# Altium schematic symbol library ARTC_LIB.SCHLIB: 172 symbols
Pins are listed as number, name and electrical type; pins without a type are passive.

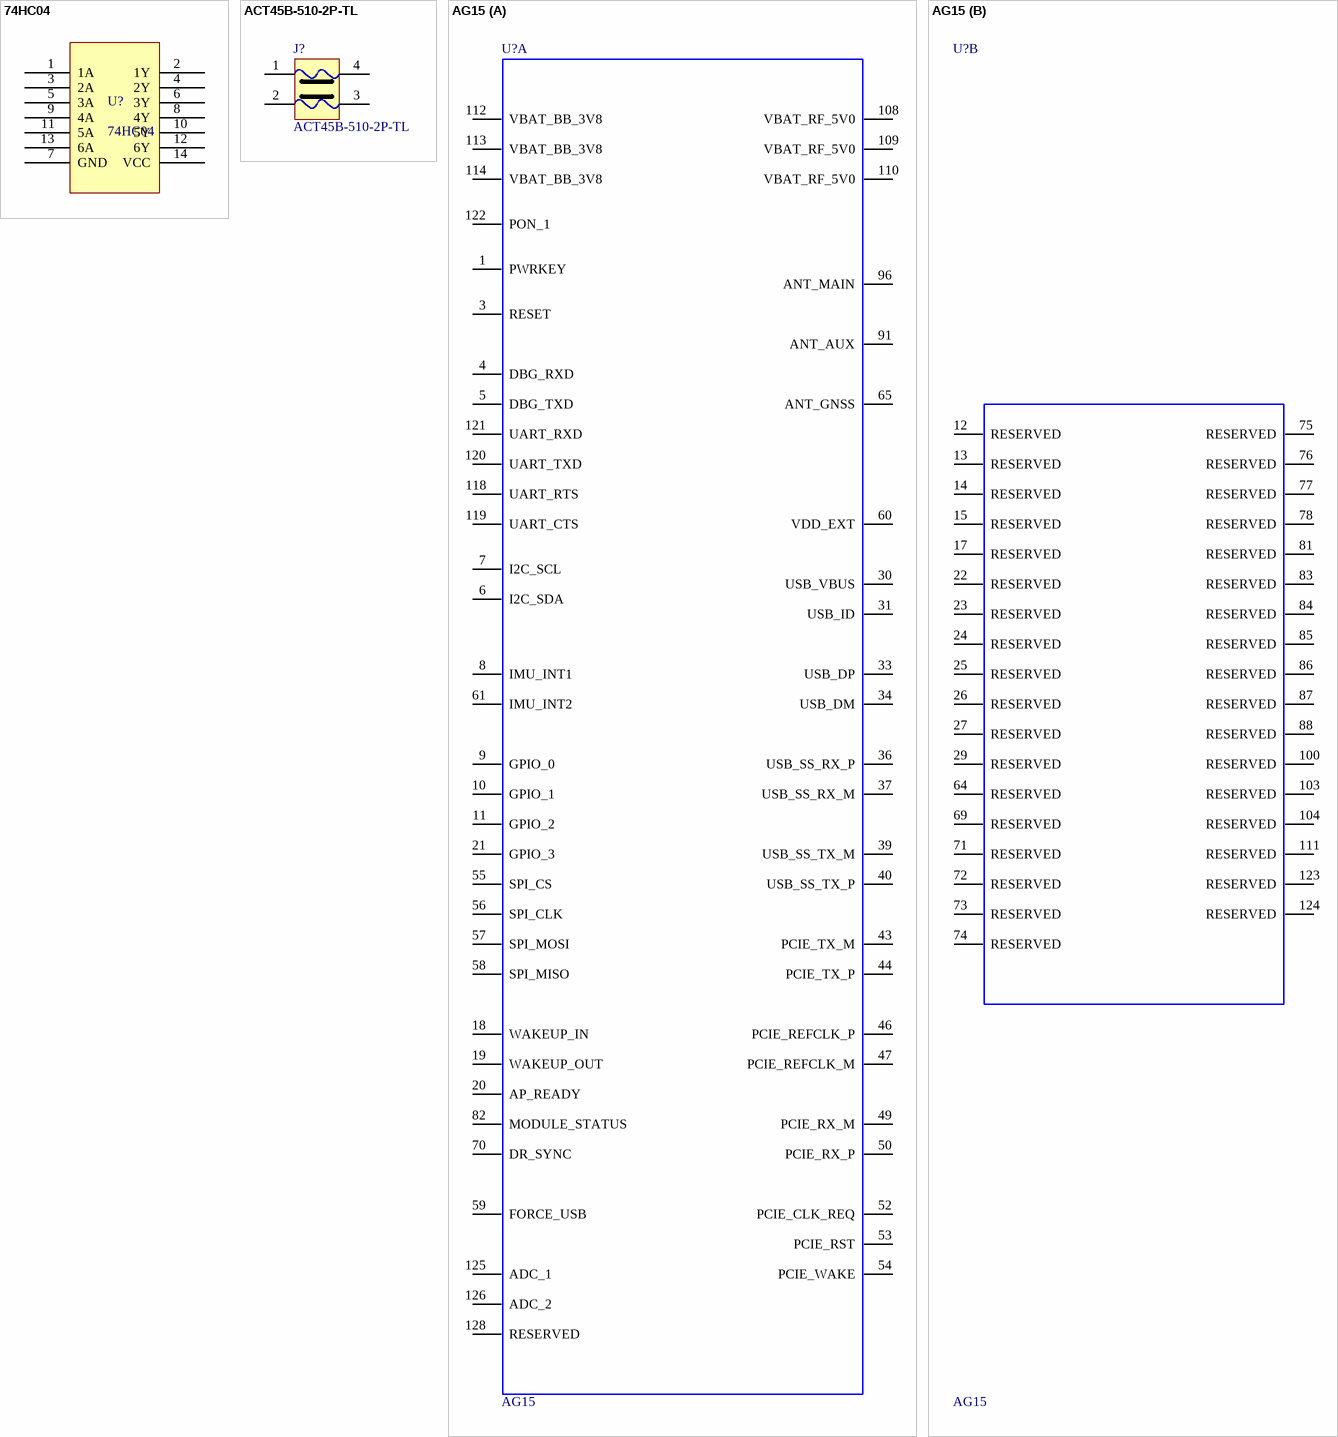
[diagram p0: symbols 74HC04 to AG15]

## 74HC04
designator U?
74HC04,6V,50mA,6反相器; 物料类型: IC; SMT/DIP: SMT; 物料代码: *
footprint SO-14
pins: 1 1A, 2 1Y, 3 2A, 4 2Y, 5 3A, 6 3Y, 7 GND, 8 4Y, 9 4A, 10 5Y, 11 5A, 12 6Y, 13 6A, 14 VCC

## ACT45B-510-2P-TL
designator J?
ACT45B-510-2P-TL,50V,200mA,100uH; 物料类型: 共模电感; SMT/DIP: SMT; 物料代码: *; 封装: ACT45B-510-2P-TL; 厂商: *
footprint ACT45B-510-2P-TL
pins: 1, 2, 3, 4
2 alternate drawings of the same symbol

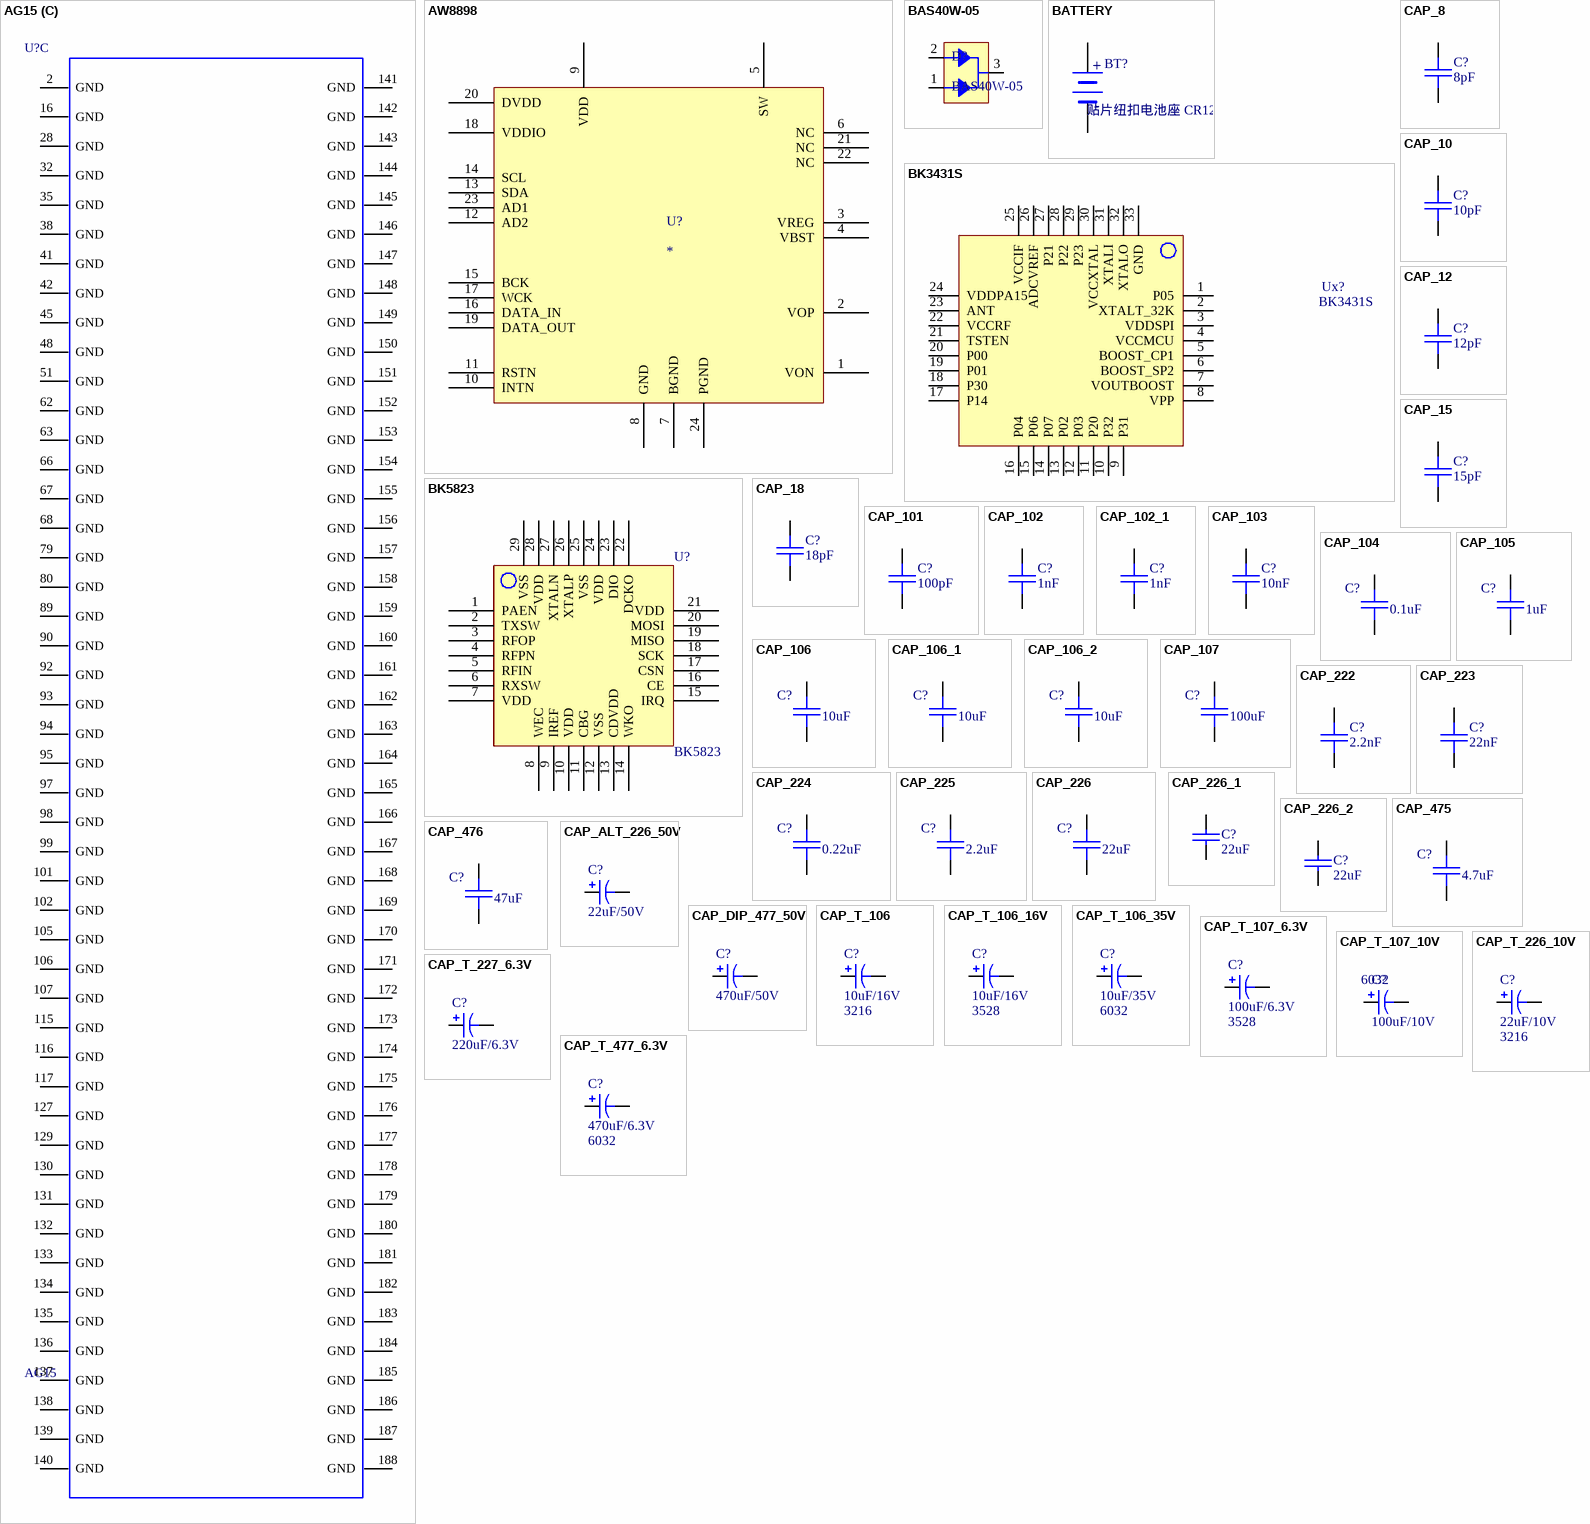
[diagram p1: symbols AG15 to CAP_T_477_6.3V]

## AG15
designator U?
移远AG15模块; 物料类型: AG15 Moudle 188PIN 28x32mm H2.85mm; SMT/DIP: SMT; Geometry.Height: 2.85mm; 厂商: QUECTEL; 物料代码: *
footprint AG15
part A pins: 1 PWRKEY, 3 RESET, 4 DBG_RXD, 5 DBG_TXD, 6 I2C_SDA, 7 I2C_SCL, 8 IMU_INT1, 9 GPIO_0, 10 GPIO_1, 11 GPIO_2, 18 WAKEUP_IN, 19 WAKEUP_OUT, 20 AP_READY, 21 GPIO_3, 30 USB_VBUS, 31 USB_ID, 33 USB_DP, 34 USB_DM, 36 USB_SS_RX_P, 37 USB_SS_RX_M, 39 USB_SS_TX_M, 40 USB_SS_TX_P, 43 PCIE_TX_M, 44 PCIE_TX_P, 46 PCIE_REFCLK_P, 47 PCIE_REFCLK_M, 49 PCIE_RX_M, 50 PCIE_RX_P, 52 PCIE_CLK_REQ, 53 PCIE_RST, 54 PCIE_WAKE, 55 SPI_CS, 56 SPI_CLK, 57 SPI_MOSI, 58 SPI_MISO, 59 FORCE_USB, 60 VDD_EXT, 61 IMU_INT2, 65 ANT_GNSS, 70 DR_SYNC, 82 MODULE_STATUS, 91 ANT_AUX, 96 ANT_MAIN, 108 VBAT_RF_5V0, 109 VBAT_RF_5V0, 110 VBAT_RF_5V0, 112 VBAT_BB_3V8, 113 VBAT_BB_3V8, 114 VBAT_BB_3V8, 118 UART_RTS, 119 UART_CTS, 120 UART_TXD, 121 UART_RXD, 122 PON_1, 125 ADC_1, 126 ADC_2, 128 RESERVED
part B pins: 12 RESERVED, 13 RESERVED, 14 RESERVED, 15 RESERVED, 17 RESERVED, 22 RESERVED, 23 RESERVED, 24 RESERVED, 25 RESERVED, 26 RESERVED, 27 RESERVED, 29 RESERVED, 64 RESERVED, 69 RESERVED, 71 RESERVED, 72 RESERVED, 73 RESERVED, 74 RESERVED, 75 RESERVED, 76 RESERVED, 77 RESERVED, 78 RESERVED, 81 RESERVED, 83 RESERVED, 84 RESERVED, 85 RESERVED, 86 RESERVED, 87 RESERVED, 88 RESERVED, 100 RESERVED, 103 RESERVED, 104 RESERVED, 111 RESERVED, 123 RESERVED, 124 RESERVED
part C pins: 2 GND, 16 GND, 28 GND, 32 GND, 35 GND, 38 GND, 41 GND, 42 GND, 45 GND, 48 GND, 51 GND, 62 GND, 63 GND, 66 GND, 67 GND, 68 GND, 79 GND, 80 GND, 89 GND, 90 GND, 92 GND, 93 GND, 94 GND, 95 GND, 97 GND, 98 GND, 99 GND, 101 GND, 102 GND, 105 GND, 106 GND, 107 GND, 115 GND, 116 GND, 117 GND, 127 GND, 129 GND, 130 GND, 131 GND, 132 GND, 133 GND, 134 GND, 135 GND, 136 GND, 137 GND, 138 GND, 139 GND, 140 GND, 141 GND, 142 GND, 143 GND, 144 GND, 145 GND, 146 GND, 147 GND, 148 GND, 149 GND, 150 GND, 151 GND, 152 GND, 153 GND, 154 GND, 155 GND, 156 GND, 157 GND, 158 GND, 159 GND, 160 GND, 161 GND, 162 GND, 163 GND, 164 GND, 165 GND, 166 GND, 167 GND, 168 GND, 169 GND, 170 GND, 171 GND, 172 GND, 173 GND, 174 GND, 175 GND, 176 GND, 177 GND, 178 GND, 179 GND, 180 GND, 181 GND, 182 GND, 183 GND, 184 GND, 185 GND, 186 GND, 187 GND, 188 GND

## AW8898
designator U?
AW8898,I2S/TDM input,3rd Generation Digital Smart K Audio Amplifier,5.2W,上海艾为电子; 物料类型: IC; SMT/DIP: SMT; 厂商: 艾为电子; 物料代码: *
footprint QFN24_L (3.5*3.5*0.75)
pins: 1 VON, 2 VOP, 3 VREG, 4 VBST, 5 SW, 6 NC, 7 BGND, 8 GND, 9 VDD, 10 INTN, 11 RSTN, 12 AD2, 13 SDA, 14 SCL, 15 BCK, 16 DATA_IN, 17 WCK, 18 VDDIO, 19 DATA_OUT, 20 DVDD, 21 NC, 22 NC, 23 AD1, 24 PGND

## BAS40W-05
designator D?
物料类型: 肖特基二极管; SMT/DIP: SMT; 物料代码: *; 厂商: *
footprint SOT-323
pins: 1, 2, 3

## BATTERY
designator BT?, comment 贴片纽扣电池座 CR1220
2P,间距1.25mm,Wafer凹槽边框,90°,FPC2-49T; 物料类型: 纽扣电池座; SMT/DIP: SMT; 物料代码: *; 厂商: *
footprint BAT600
pins: 1 +, 2 -
2 alternate drawings of the same symbol

## BK3431S
designator Ux?
物料类型: IC; SMT/DIP: SMT; 物料代码: *; 厂商: *
footprint QFN40P400X400X90-32N
pins: 1 P05, 2 XTALT_32K, 3 VDDSPI, 4 VCCMCU, 5 BOOST_CP1, 6 BOOST_SP2, 7 VOUTBOOST, 8 VPP, 9 P31, 10 P32, 11 P20, 12 P03, 13 P02, 14 P07, 15 P06, 16 P04, 17 P14, 18 P30, 19 P01, 20 P00, 21 TSTEN, 22 VCCRF, 23 ANT, 24 VDDPA15, 25 VCCIF, 26 ADCVREF, 27 P21, 28 P22, 29 P23, 30 VCCXTAL, 31 XTALI, 32 XTALO, 33 GND
2 alternate drawings of the same symbol

## BK5823
designator U?
物料类型: IC; SMT/DIP: SMT; 物料代码: *; 厂商: *
footprint BK5822
pins: 1 PAEN, 2 TXSW, 3 RFOP, 4 RFPN, 5 RFIN, 6 RXSW, 7 VDD, 8 WEC, 9 IREF, 10 VDD, 11 CBG, 12 VSS, 13 CDVDD, 14 WKO, 15 IRQ, 16 CE, 17 CSN, 18 SCK, 19 MISO, 20 MOSI, 21 VDD, 22 DCKO, 23 DIO, 24 VDD, 25 VSS, 26 XTALP, 27 XTALN, 28 VDD, 29 VSS
2 alternate drawings of the same symbol

## CAP_8
designator C?, comment 8pF
8pF/±10%/25V/X7R/0402; 物料类型: 电容; 封装: 0402; SMT/DIP: SMT; 物料代码: *; 厂商: *
footprint C0402
pins: 1, 2
2 alternate drawings of the same symbol

## CAP_10
designator C?, comment 10pF
10pF/±10%/25V/X7R/0402; 物料类型: 电容; 封装: 0402; SMT/DIP: SMT; 物料代码: *; 厂商: *
footprint C0402
pins: 1, 2
2 alternate drawings of the same symbol

## CAP_12
designator C?, comment 12pF
12pF/±10%/25V/X7R/0402; 物料类型: 电容; 封装: 0402; SMT/DIP: SMT; 物料代码: *; 厂商: *
footprint C0402
pins: 1, 2
2 alternate drawings of the same symbol

## CAP_15
designator C?, comment 15pF
15pF/±10%/25V/X7R/0402; 物料类型: 电容; 封装: 0402; SMT/DIP: SMT; 物料代码: *; 厂商: *
footprint C0402
pins: 1, 2
2 alternate drawings of the same symbol

## CAP_18
designator C?, comment 18pF
18pF/±10%/25V/X7R/0402; 物料类型: 电容; 封装: 0402; SMT/DIP: SMT; 物料代码: *; 厂商: *
footprint C0402
pins: 1, 2
2 alternate drawings of the same symbol

## CAP_101
designator C?, comment 100pF
100pF/±10%/25V/X7R/0402; 物料类型: 电容; 封装: 0402; SMT/DIP: SMT; 物料代码: *; 厂商: *
footprint C0402
pins: 1, 2
2 alternate drawings of the same symbol

## CAP_102
designator C?, comment 1nF
1nF/±10%/25V/X7R/0402; 物料类型: 电容; 封装: 0402; SMT/DIP: SMT; 物料代码: *; 厂商: *
footprint C0402
pins: 1, 2
2 alternate drawings of the same symbol

## CAP_102_1
designator C?, comment 1nF
1nF/±10%/1KV/X7R/1206; 物料类型: 电容; 封装: 1206; SMT/DIP: SMT; 物料代码: *; 厂商: *
footprint C1206
pins: 1, 2
2 alternate drawings of the same symbol

## CAP_103
designator C?, comment 10nF
10nF/±10%/25V/X7R/0402; 物料类型: 电容; 封装: 0402; SMT/DIP: SMT; 物料代码: *; 厂商: *
footprint C0402
pins: 1, 2
2 alternate drawings of the same symbol

## CAP_104
designator C?, comment 0.1uF
0.1uF/±10%/16V/X7R/0402; 物料类型: 电容; 封装: 0402; SMT/DIP: SMT; 物料代码: *; 厂商: *
footprint C0402
pins: 1, 2
2 alternate drawings of the same symbol

## CAP_105
designator C?, comment 1uF
1uF/±10%/16V/X7R/0603; 物料类型: 电容; 封装: 0603; SMT/DIP: SMT; 物料代码: *; 厂商: *
footprint C0603
pins: 1, 2
2 alternate drawings of the same symbol

## CAP_106
designator C?, comment 10uF
10uF/±10%/10V/X5R/0603; 物料类型: 电容; 封装: 0603; SMT/DIP: SMT; 物料代码: *; 厂商: *
footprint C0603
pins: 1, 2
2 alternate drawings of the same symbol

## CAP_106_1
designator C?, comment 10uF
10uF/±10%/50V/X5R/1206; 物料类型: 电容; 封装: 1206; SMT/DIP: SMT; 物料代码: *; 厂商: *
footprint C1206
pins: 1, 2
2 alternate drawings of the same symbol

## CAP_106_2
designator C?, comment 10uF
10uF/±10%/50V/X5R/0805; 物料类型: 电容; 封装: 0805; SMT/DIP: SMT; 物料代码: *; 厂商: *
footprint C0805
pins: 1, 2
2 alternate drawings of the same symbol

## CAP_107
designator C?, comment 100uF
100uF/±10%/6.3V/X5R/1210; 物料类型: 电容; 封装: 1210; SMT/DIP: SMT; 物料代码: *; 厂商: *
footprint C1210
pins: 1, 2
2 alternate drawings of the same symbol

## CAP_222
designator C?, comment 2.2nF
2.2nF/±10%/25V/X7R/0402; 物料类型: 电容; 封装: 0402; SMT/DIP: SMT; 物料代码: *; 厂商: *
footprint C0402
pins: 1, 2
2 alternate drawings of the same symbol

## CAP_223
designator C?, comment 22nF
22nF/±10%/25V/X7R/0402; 物料类型: 电容; 封装: 0402; SMT/DIP: SMT; 物料代码: *; 厂商: *
footprint C0402
pins: 1, 2
2 alternate drawings of the same symbol

## CAP_224
designator C?, comment 0.22uF
0.22uF/±10%/16V/X7R/0402; 物料类型: 电容; 封装: 0402; SMT/DIP: SMT; 物料代码: *; 厂商: *
footprint C0402
pins: 1, 2
2 alternate drawings of the same symbol

## CAP_225
designator C?, comment 2.2uF
2.2uF/±10%/10V/X7R/0603; 物料类型: 电容; 封装: 0603; SMT/DIP: SMT; 物料代码: *; 厂商: *
footprint C0603
pins: 1, 2
2 alternate drawings of the same symbol

## CAP_226
designator C?, comment 22uF
22uF/±10%/10V/X7R/0805; 物料类型: 电容; 封装: 0402; SMT/DIP: SMT; 物料代码: *; 厂商: *
footprint C0805
pins: 1, 2
2 alternate drawings of the same symbol

## CAP_226_1
designator C?, comment 22uF
22uF/±10%/10V/X7R/1206; 物料类型: 电容; SMT/DIP: DIP; 封装: 1206; 物料代码: *; 厂商: *
footprint C1206
pins: 1, 2
2 alternate drawings of the same symbol

## CAP_226_2
designator C?, comment 22uF
22uF/±10%/10V/X7R/1206; 物料类型: 电容; 封装: 1210; SMT/DIP: SMT; 物料代码: *; 厂商: *
footprint C1206
pins: 1, 2
2 alternate drawings of the same symbol

## CAP_475
designator C?, comment 4.7uF
4.7uF/±10%/10V/X7R/0603; 物料类型: 电容; 封装: 0402; SMT/DIP: SMT; 物料代码: *; 厂商: *
footprint C0603
pins: 1, 2
2 alternate drawings of the same symbol

## CAP_476
designator C?, comment 47uF
47uF/±10%/10V/X7R/1206; 物料类型: 电容; 封装: 1206; SMT/DIP: SMT; 物料代码: *; 厂商: *
footprint C1206
pins: 1, 2
2 alternate drawings of the same symbol

## CAP_ALT_226_50V
designator C?, comment 22uF/50V
22uF,50V,D6.3*6mm; 物料类型: 直插电解电容; SMT/DIP: SMT
footprint CAP-EVJ-D6.3*6mm
pins: 1, 2
2 alternate drawings of the same symbol

## CAP_DIP_477_50V
designator C?, comment 470uF/50V
470uF,50V,D10*17mm; 物料类型: 直插电解电容; SMT/DIP: DIP
footprint CAP_DIP_10*17
pins: 1, 2
2 alternate drawings of the same symbol

## CAP_T_106
designator C?, comment 10uF/16V  封装: 3216
10uF,16V,3216,RoHS; 物料类型: 钽电容; SMT/DIP: SMT; Value: 10uF
footprint C3216 (长3.2mm，宽1.6mm，厚1.6mm)
pins: 1, 2
2 alternate drawings of the same symbol

## CAP_T_106_16V
designator C?, comment 10uF/16V  封装: 3528
10uF,16V,3528,RoHS; 物料类型: 钽电容; SMT/DIP: SMT; Value: 10uF
footprint C3528 (长3.5mm，宽2.8mm，厚1.9mm)
pins: 1, 2
2 alternate drawings of the same symbol

## CAP_T_106_35V
designator C?, comment 10uF/35V  封装: 6032
10uF,35V,6032,RoHS; 物料类型: 钽电容; SMT/DIP: SMT; Value: 10uF
footprint POLAR0.8
footprint 6032
pins: 1, 2
2 alternate drawings of the same symbol

## CAP_T_107_6.3V
designator C?, comment 100uF/6.3V  封装: 3528
100uF,6.3V,3528,RoHS; 物料类型: 钽电容; SMT/DIP: SMT; Value: 100uF
footprint C3528 (长3.5mm，宽2.8mm，厚1.9mm)
pins: 1, 2
2 alternate drawings of the same symbol

## CAP_T_107_10V
designator C?, comment 100uF/10V  封装: 6032
100uF,10V,6032,RoHS; 物料类型: 钽电容; 厂商: AVX; SMT/DIP: SMT; Value: 100uF
footprint 6032
pins: 1, 2
2 alternate drawings of the same symbol

## CAP_T_226_10V
designator C?, comment 22uF/10V  封装: 3216
22uF,10V,3216,RoHS; 物料类型: 钽电容; SMT/DIP: SMT; Value: 22uF
footprint C3216 (长3.2mm，宽1.6mm，厚1.6mm)
pins: 1, 2
2 alternate drawings of the same symbol

## CAP_T_227_6.3V
designator C?, comment 220uF/6.3V
220uF,6.3V,3528,RoHS; 物料类型: 钽电容; SMT/DIP: SMT; 封装: 3528; Value: 220uF
footprint C3528 (长3.5mm，宽2.8mm，厚1.9mm)
pins: 1, 2
2 alternate drawings of the same symbol

## CAP_T_477_6.3V
designator C?, comment 470uF/6.3V  封装: 6032
470uF,,6.3V,6032,RoHS; 物料类型: 钽电容; SMT/DIP: SMT; Value: 470uF
footprint 6032
pins: 1, 2
2 alternate drawings of the same symbol

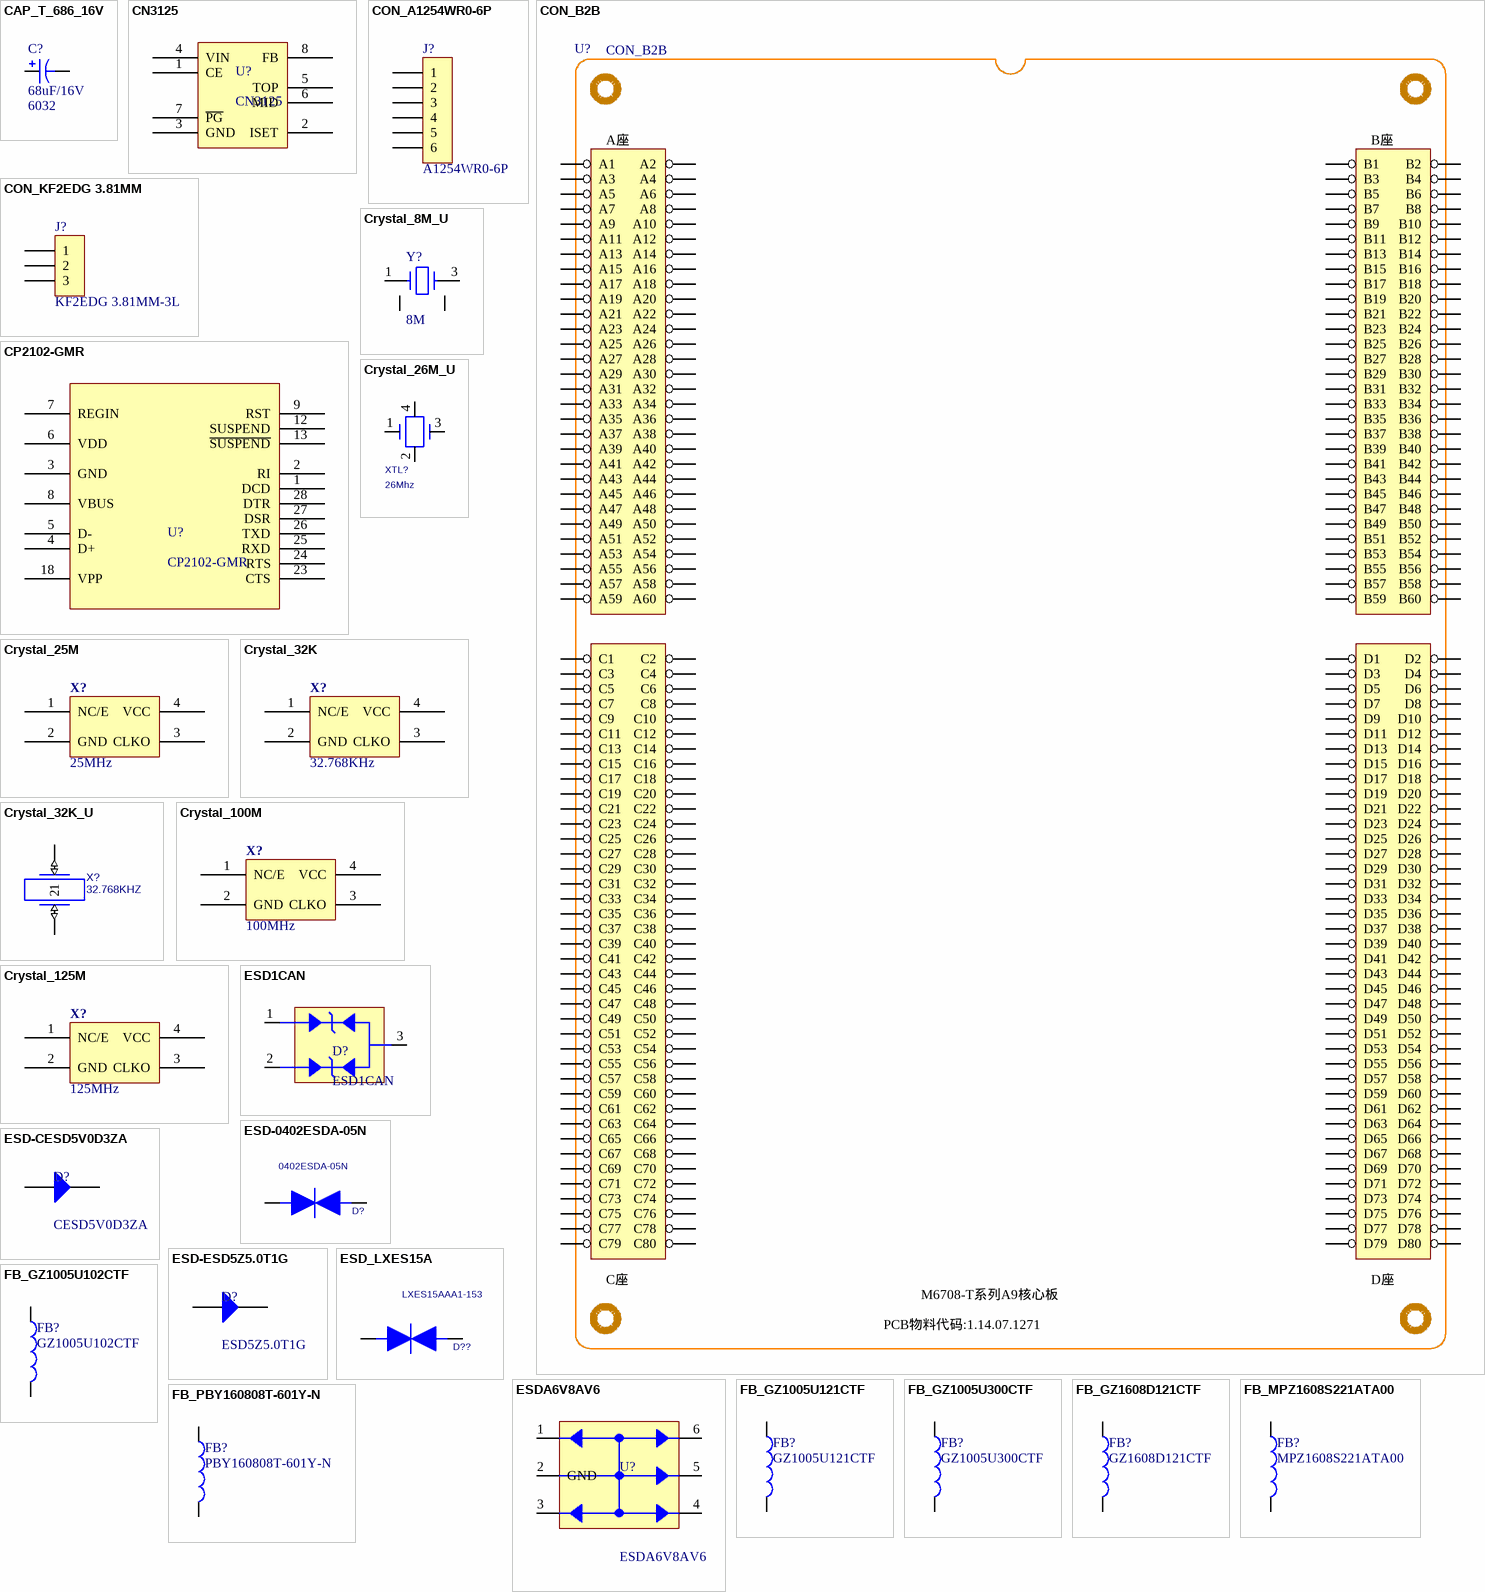
[diagram p2: symbols CAP_T_686_16V to FB_PBY160808T-601Y-N]

## CAP_T_686_16V
designator C?, comment 68uF/16V  封装: 6032
68uF,16V,6032,RoHS; 物料类型: 钽电容; 厂商: AVX; SMT/DIP: SMT; Value: 68uF
footprint 6032
pins: 1, 2
2 alternate drawings of the same symbol

## CN3125
designator U?
CN3125.超级电容充电管理IC,2.7-6V, / OPERATION CURRENT IS 470uA ESOP /; 物料类型: IC; SMT/DIP: SMT; 物料代码: *; 厂商: *
footprint ESOP-CN3125 (开关电源)
pins: 1 CE, 2 ISET, 3 GND, 4 VIN, 5 TOP, 6 MID, 7 ~{PG}, 8 FB

## CON_A1254WR0-6P
designator J?, comment A1254WR0-6P
A1254WR0-6P(1.25MM-6PIN); 物料类型: 连接器; SMT/DIP: SMT; 厂商: *; 物料代码: *; 封装: A1254WR0-6P
footprint 55063-NAWB
pins: 1, 2, 3, 4, 5, 6
2 alternate drawings of the same symbol

## CON_B2B
designator U?
DF12D(3.0)-60DP-0.5V(81) 母座*2，DF12D(3.0)-80DP-0.5V(81) 母座*2; 物料类型: 连接器; SMT/DIP: SMT; 物料代码: *; 厂商: *; 封装: *
footprint M6708-T
pins: A1, A2, A3, A4, A5, A6, A7, A8, A9, A10, A11, A12, A13, A14, A15, A16, A17, A18, A19, A20, A21, A22, A23, A24, A25, A26, A27, A28, A29, A30, A31, A32, A33, A34, A35, A36, A37, A38, A39, A40, A41, A42, A43, A44, A45, A46, A47, A48, A49, A50, A51, A52, A53, A54, A55, A56, A57, A58, A59, A60, B1, B2, B3, B4, B5, B6, B7, B8, B9, B10, B11, B12, B13, B14, B15, B16, B17, B18, B19, B20, B21, B22, B23, B24, B25, B26, B27, B28, B29, B30, B31, B32, B33, B34, B35, B36, B37, B38, B39, B40, B41, B42, B43, B44, B45, B46, B47, B48, B49, B50, B51, B52, B53, B54, B55, B56, B57, B58, B59, B60, C1, C2, C3, C4, C5, C6, C7, C8, C9, C10, C11, C12, C13, C14, C15, C16, C17, C18, C19, C20, C21, C22, C23, C24, C25, C26, C27, C28, C29, C30, C31, C32, C33, C34, C35, C36, C37, C38, C39, C40, C41, C42, C43, C44, C45, C46, C47, C48, C49, C50, C51, C52, C53, C54, C55, C56, C57, C58, C59, C60, C61, C62, C63, C64, C65, C66, C67, C68, C69, C70, C71, C72, C73, C74, C75, C76, C77, C78, C79, C80, D1, D2, D3, D4, D5, D6, D7, D8, D9, D10, D11, D12, D13, D14, D15, D16, D17, D18, D19, D20, D21, D22, D23, D24, D25, D26, D27, D28, D29, D30, D31, D32, D33, D34, D35, D36, D37, D38, D39, D40, D41, D42, D43, D44, D45, D46, D47, D48, D49, D50, D51, D52, D53, D54, D55, D56, D57, D58, D59, D60, D61, D62, D63, D64, D65, D66, D67, D68, D69, D70, D71, D72, D73, D74, D75, D76, D77, D78, D79, D80
2 alternate drawings of the same symbol
text: A座; B座; C座; D座; M6708-T系列A9核心板; PCB物料代码:1.14.07.1271

## CON_KF2EDG 3.81MM
designator J?, comment KF2EDG 3.81MM-3L
KF2EDG 3.81MM-3L,90度3PIN; 物料类型: 连接器; 封装: 3.81MM*3P; SMT/DIP: DIP; 物料代码: *; 厂商: *
footprint XH2.54-3A (3P弯插座)
pins: 1, 2, 3
2 alternate drawings of the same symbol

## CP2102-GMR
designator U?
CP2102-GMR，3V3,USB转TTL转换IC; 物料类型: IC; SMT/DIP: SMT; 厂商: *; 物料代码: *
footprint QFN-28_5x5x05P
pins: 1 DCD, 2 RI, 3 GND, 4 D+, 5 D-, 6 VDD, 7 REGIN, 8 VBUS, 9 RST, 12 SUSPEND, 13 ~{SUSPEND}, 18 VPP, 23 CTS, 24 RTS, 25 RXD, 26 TXD, 27 DSR, 28 DTR

## Crystal_8M_U
designator Y?, comment 8M
CF4008M00012T8188037,8M,±20ppm,5pF,-40~85℃,3225; 物料类型: 晶体; 厂商: JWT; SMT/DIP: SMT; 物料代码: *
footprint 3225
pins: 1, 2 GND, 3, 4 GND
2 alternate drawings of the same symbol

## Crystal_25M
designator X?, comment 25MHz
OT705025MJBA4SL,±20ppm,10pF,3.3V,-40~85℃,3225; 物料类型: 晶振; SMT/DIP: SMT; 厂商: YXC; 物料代码: *
footprint 3225
pins: 1 NC/E, 2 GND, 3 CLKO, 4 VCC
2 alternate drawings of the same symbol

## Crystal_26M_U
designator XTL?, comment 26Mhz
X322526MQB4SI,±20ppm,12pF,3225; 物料类型: 晶体; SMT/DIP: SMT; 厂商: YXC; 物料代码: *
footprint 3225
pins: 1, 2, 3, 4

## Crystal_32K
designator X?, comment 32.768KHz
3N00032G33YC,±10ppm,3.3V,-40~85℃,3225; 物料类型: 晶振; SMT/DIP: SMT; 厂商: SJK; 物料代码: *
footprint 3225
pins: 1 NC/E, 2 GND, 3 CLKO, 4 VCC
2 alternate drawings of the same symbol

## Crystal_32K_U
designator X?, comment 32.768KHZ
7LC32768F12UC,12.5PF±20PPM,-40~85℃,3215; 物料类型: 晶体; SMT/DIP: SMT; 厂商: SJK; 封装: 3215; 物料代码: *
footprint 1206A
pins: 1 (io), 2 (io)
2 alternate drawings of the same symbol

## Crystal_100M
designator X?, comment 100MHz
SG-8101CE 100Mhz TCHPA,±20ppm,15pF,3.3V,-40~105℃,3225; 物料类型: 晶振; 封装: 3225; SMT/DIP: SMT; 厂商: EPSON; 物料代码: *
footprint 3225
pins: 1 NC/E, 2 GND, 3 CLKO, 4 VCC
2 alternate drawings of the same symbol

## Crystal_125M
designator X?, comment 125MHz  (no BOM)
SG-8018CE 125Mhz TJHPA,±50ppm,15pF,3.3V,-40~105℃,3225; 物料类型: 晶振; 封装: 3225; SMT/DIP: SMT; 厂商: EPSON; 物料代码: *
footprint 3225
pins: 1 NC/E, 2 GND, 3 CLKO, 4 VCC
2 alternate drawings of the same symbol

## ESD1CAN
designator D?
PESD1CAN，反向关断电压24V,击穿电压26.1V,SOT23,伯恩半导体; 物料类型: ESD二极管; SMT/DIP: SMT; 厂商: *; 物料代码: *
footprint SOT23-3L (SOT23, 3-Leads, Body 2.9x1.3mm, Pitch 0.95mm, Lead Span 2.3mm - Reverse Pinning, IPC High Density)
pins: 1, 2, 3

## ESD-0402ESDA-05N
designator D?, comment 0402ESDA-05N
0402ESDA-05N 反向关断电压5V  Cd= 1.5pF,D0402,伯恩半导体; 物料类型: ESD二极管; SMT/DIP: SMT; 厂商: *; 物料代码: *
footprint D0402
pins: 1, 2

## ESD-CESD5V0D3ZA
designator D?, comment CESD5V0D3ZA
CESD5V0D3ZA，反向关断电压5V,击穿电压6.2V,Cd= 350pF,SOD323,江苏长电; 物料类型: ESD二极管; SMT/DIP: SMT; 厂商: *; 物料代码: *
footprint SOD-323
pins: 1, 2

## ESD-ESD5Z5.0T1G
designator D?, comment ESD5Z5.0T1G
ESD5Z5.0T1G，反向关断电压5V,击穿电压6V,100pF,SOD523,伯恩半导体; 物料类型: ESD二极管; SMT/DIP: SMT; 厂商: *; 物料代码: *
footprint SOD-523 (1.2x0.8X0.6mm（长宽高，不包括引脚）)
pins: 1, 2

## ESD_LXES15A
designator D??, comment LXES15AAA1-153
LXES15AAA1-153 反向关断电压4V  Cd= 0.05pF,D0402,村田; 物料类型: ESD二极管; SMT/DIP: SMT; 厂商: 村田; 物料代码: *
footprint D0402
pins: 1, 2

## ESDA6V8AV6
designator U?
ESDA6V8AV6，反向关断电压6.8VV,击穿电压6.2V,9pF,SOT23,韦尔 /; 物料类型: ESD二极管; SMT/DIP: SMT; 厂商: *; 物料代码: *
footprint SOT-563
pins: 1, 2 GND, 3, 4, 5, 6
2 alternate drawings of the same symbol

## FB_GZ1005U102CTF
designator FB?, comment GZ1005U102CTF
GZ1005U102CTF,1000R@100MHz,300mA,580mR±25%,0402,Sunlord; 物料类型: 磁珠; SMT/DIP: SMT; 物料代码: *; 厂商: Sunlord
footprint F0402 (R0402)
pins: 1, 2
2 alternate drawings of the same symbol

## FB_GZ1005U121CTF
designator FB?, comment GZ1005U121CTF
GZ1005U121CTF,120R@100MHz,500mA,200mR±25%,0402,Sunlord; 物料类型: 磁珠; SMT/DIP: SMT; 物料代码: *; 厂商: Sunlord
footprint F0402 (R0402)
pins: 1, 2
2 alternate drawings of the same symbol

## FB_GZ1005U300CTF
designator FB?, comment GZ1005U300CTF
GZ1005U300CTF,30R@100MHz,700mA,60mR±25%,0402,Sunlord; 物料类型: 磁珠; SMT/DIP: SMT; 物料代码: *; 厂商: Sunlord
footprint F0402 (R0402)
pins: 1, 2
2 alternate drawings of the same symbol

## FB_GZ1608D121CTF
designator FB?, comment GZ1608D121CTF
GZ1608D121CTF,120R@100MHz,300mA,200mR±25%,0603,Sunlord; 物料类型: 磁珠; SMT/DIP: SMT; Value: 120R@100MHz; 物料代码: *; 厂商: Sunlord
footprint F0603
pins: 1, 2
2 alternate drawings of the same symbol

## FB_MPZ1608S221ATA00
designator FB?, comment MPZ1608S221ATA00
MPZ1608S221ATA00,220R@100MHz,2.2A,50mR±25%,0603,Sunlord; 物料类型: 磁珠; SMT/DIP: SMT; Value: 220R@100MHz; 物料代码: *; 厂商: Sunlord
footprint F0603
pins: 1, 2
2 alternate drawings of the same symbol

## FB_PBY160808T-601Y-N
designator FB?, comment PBY160808T-601Y-N
PBY160808T-601Y-N,600R@100MHz,1A,200mR±25%,0603,CHILISIN; 物料类型: 磁珠; SMT/DIP: SMT; Value: 600R@100MHz; 物料代码: *; 厂商: CHILISIN
footprint F0603
pins: 1, 2
2 alternate drawings of the same symbol

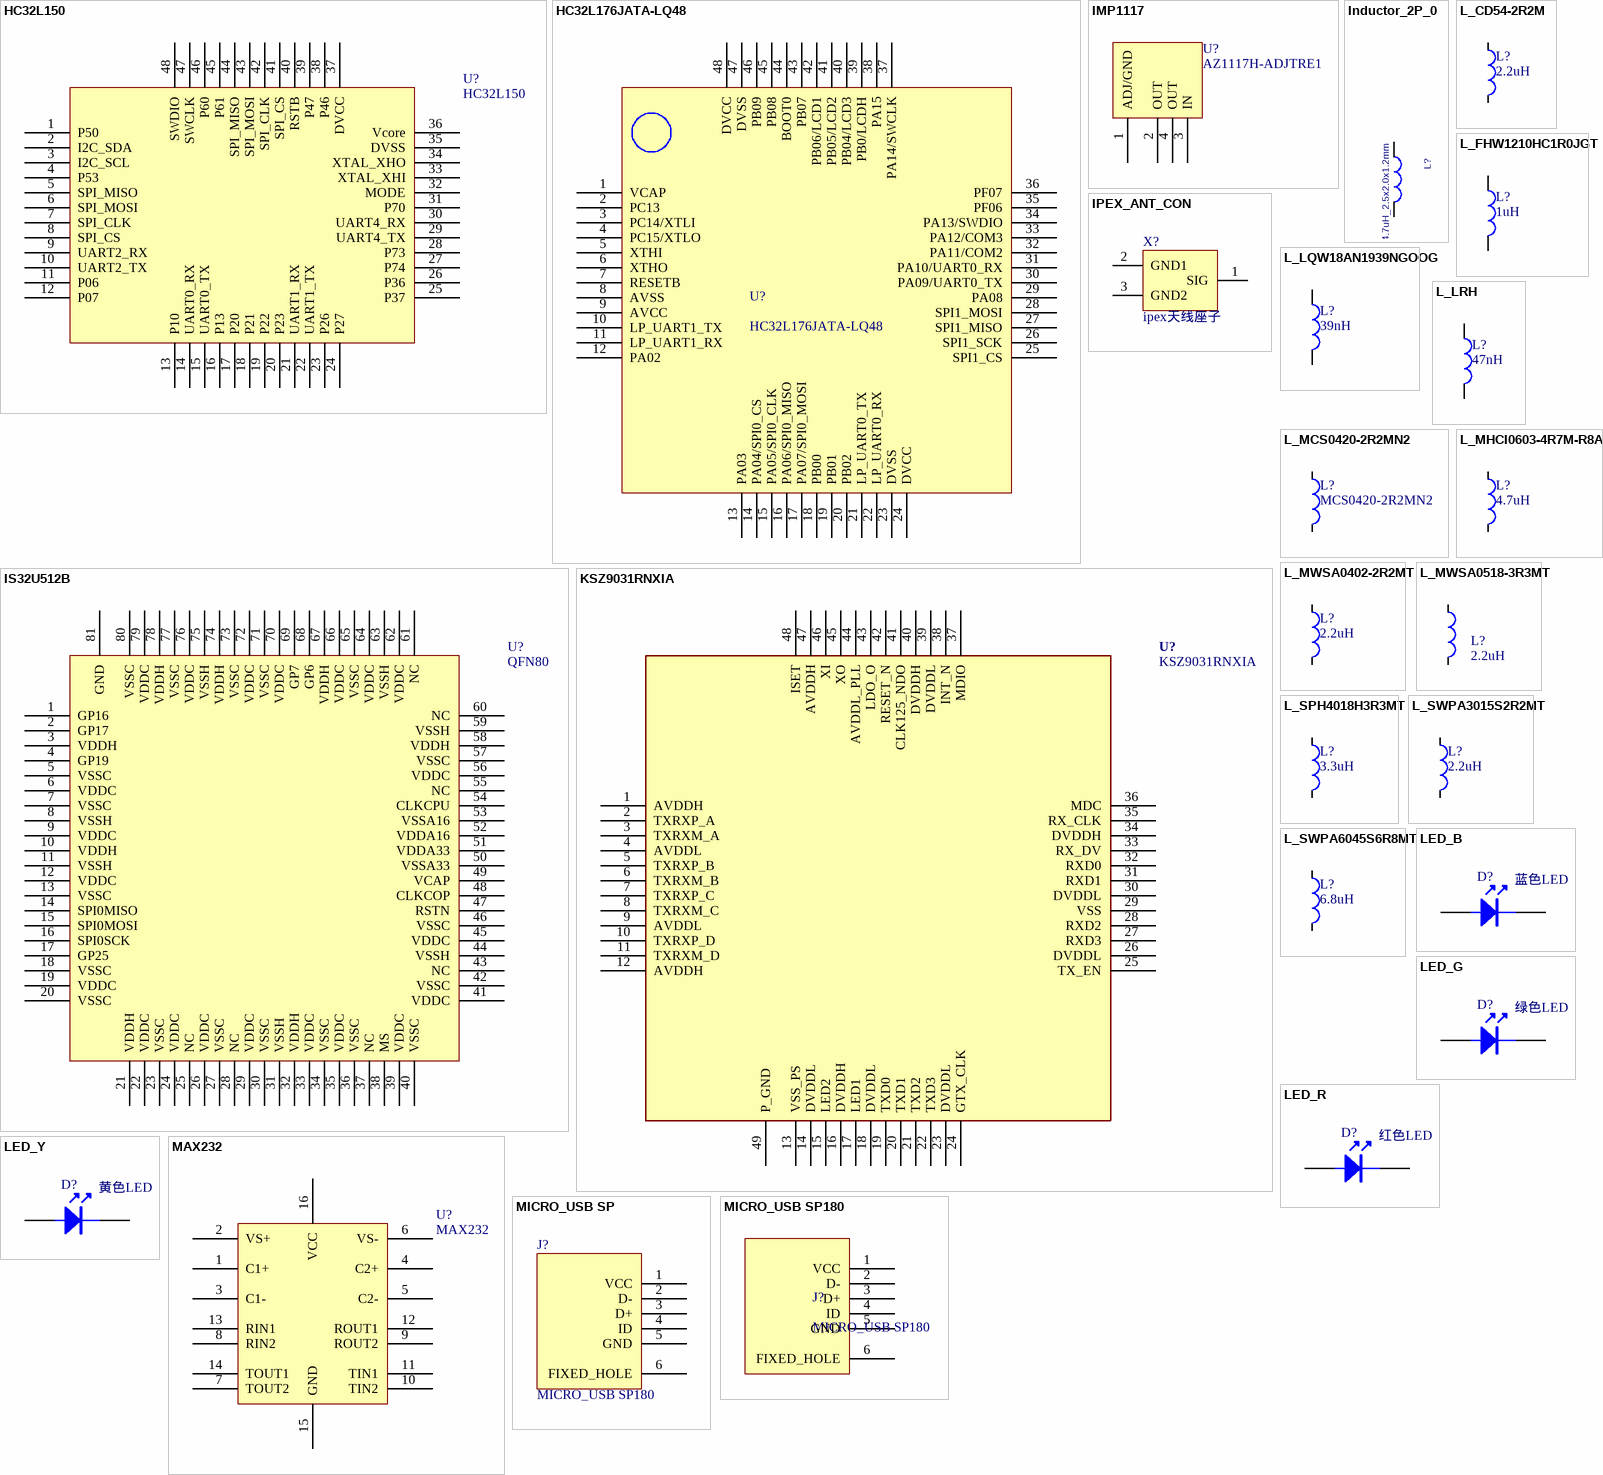
[diagram p3: symbols HC32L150 to MICRO_USB SP180]

## HC32L150
designator U?
HC32L150,MCU,LQFP48; 物料类型: IC; SMT/DIP: SMT; 厂商: 华大半导体; 物料代码: *
footprint LQFP48/0.5/9X9
pins: 1 P50, 2 I2C_SDA, 3 I2C_SCL, 4 P53, 5 SPI_MISO, 6 SPI_MOSI, 7 SPI_CLK, 8 SPI_CS, 9 UART2_RX, 10 UART2_TX, 11 P06, 12 P07, 13 P10, 14 UART0_RX, 15 UART0_TX, 16 P13, 17 P20, 18 P21, 19 P22, 20 P23, 21 UART1_RX, 22 UART1_TX, 23 P26, 24 P27, 25 P37, 26 P36, 27 P74, 28 P73, 29 UART4_TX, 30 UART4_RX, 31 P70, 32 MODE, 33 XTAL_XHI, 34 XTAL_XHO, 35 DVSS, 36 Vcore, 37 DVCC, 38 P46, 39 P47, 40 RSTB, 41 SPI_CS, 42 SPI_CLK, 43 SPI_MOSI, 44 SPI_MISO, 45 P61, 46 P60, 47 SWCLK, 48 SWDIO
2 alternate drawings of the same symbol

## HC32L176JATA-LQ48
designator U?
HC32L176JATA-LQFP48; 物料类型: IC; SMT/DIP: SMT; 厂商: 华大半导体; 物料代码: *
footprint LQFP-48
pins: 1 VCAP, 2 PC13, 3 PC14/XTLI, 4 PC15/XTLO, 5 XTHI, 6 XTHO, 7 RESETB, 8 AVSS, 9 AVCC, 10 LP_UART1_TX, 11 LP_UART1_RX, 12 PA02, 13 PA03, 14 PA04/SPI0_CS, 15 PA05/SPI0_CLK, 16 PA06/SPI0_MISO, 17 PA07/SPI0_MOSI, 18 PB00, 19 PB01, 20 PB02, 21 LP_UART0_TX, 22 LP_UART0_RX, 23 DVSS, 24 DVCC, 25 SPI1_CS, 26 SPI1_SCK, 27 SPI1_MISO, 28 SPI1_MOSI, 29 PA08, 30 PA09/UART0_TX, 31 PA10/UART0_RX, 32 PA11/COM2, 33 PA12/COM3, 34 PA13/SWDIO, 35 PF06, 36 PF07, 37 PA14/SWCLK, 38 PA15, 39 PB0/LCDH, 40 PB04/LCD3, 41 PB05/LCD2, 42 PB06/LCD1, 43 PB07, 44 BOOT0, 45 PB08, 46 PB09, 47 DVSS, 48 DVCC

## IMP1117
designator U?, comment AZ1117H-ADJTRE1
AZ1117H-ADJTRE1，LDO,input_voltage:max15V,1A,VOUT=1.25*(1+R1/R2)+120uA*R2; 物料类型: IC; SMT/DIP: SMT; 厂商: *; 物料代码: *
footprint SOT-223
pins: 1 ADJ/GND, 2 OUT, 3 IN, 4 OUT

## Inductor_2P_0
designator L?, comment 4.7uH_2.5x2.0x1.2mm
贴片绕线电感4.7UH 20%SMD252012; 物料类型: 电感; SMT/DIP: SMT; 物料代码: *; Parameter 3: *
footprint L_SMT_2.5X2.0 (Footprint not found)
pins: 1, 2

## IPEX_ANT_CON
designator X?, comment ipex天线座子
SMT/DIP: SMT; 物料类型: ipex天线座子; 物料代码: *; 厂商: *
footprint ANT_COM
pins: 1 SIG, 2 GND1, 3 GND2
2 alternate drawings of the same symbol

## IS32U512B
designator U?  封装: QFN80  (hidden comment: IS32U512B)
IS32U512B,QFN80; 物料类型: IC; SMT/DIP: SMT; 物料代码: *; 厂商: *
footprint QFN80
pins: 1 GP16, 2 GP17, 3 VDDH, 4 GP19, 5 VSSC, 6 VDDC, 7 VSSC, 8 VSSH, 9 VDDC, 10 VDDH, 11 VSSH, 12 VDDC, 13 VSSC, 14 SPI0MISO, 15 SPI0MOSI, 16 SPI0SCK, 17 GP25, 18 VSSC, 19 VDDC, 20 VSSC, 21 VDDH, 22 VDDC, 23 VSSC, 24 VDDC, 25 NC, 26 VDDC, 27 VSSC, 28 NC, 29 VDDC, 30 VSSC, 31 VSSH, 32 VDDH, 33 VDDC, 34 VSSC, 35 VDDC, 36 VSSC, 37 NC, 38 MS, 39 VDDC, 40 VSSC, 41 VDDC, 42 VSSC, 43 NC, 44 VSSH, 45 VDDC, 46 VSSC, 47 RSTN, 48 CLKCOP, 49 VCAP, 50 VSSA33, 51 VDDA33, 52 VDDA16, 53 VSSA16, 54 CLKCPU, 55 NC, 56 VDDC, 57 VSSC, 58 VDDH, 59 VSSH, 60 NC, 61 NC, 62 VDDC, 63 VSSH, 64 VDDC, 65 VSSC, 66 VDDC, 67 VDDH, 68 GP6, 69 GP7, 70 VDDC, 71 VSSC, 72 VDDC, 73 VSSC, 74 VDDH, 75 VSSH, 76 VDDC, 77 VSSC, 78 VDDH, 79 VDDC, 80 VSSC, 81 GND
2 alternate drawings of the same symbol

## KSZ9031RNXIA
designator U?
KSZ9031RNXIA,QFN-48,MICREL; 物料类型: IC; SMT/DIP: SMT; 封装: QFN-48; 厂商: *; 物料代码: *
footprint QFN50P700X700X75-48N
pins: 1 AVDDH, 2 TXRXP_A, 3 TXRXM_A, 4 AVDDL, 5 TXRXP_B, 6 TXRXM_B, 7 TXRXP_C, 8 TXRXM_C, 9 AVDDL, 10 TXRXP_D, 11 TXRXM_D, 12 AVDDH, 13 VSS_PS, 14 DVDDL, 15 LED2, 16 DVDDH, 17 LED1, 18 DVDDL, 19 TXD0, 20 TXD1, 21 TXD2, 22 TXD3, 23 DVDDL, 24 GTX_CLK, 25 TX_EN, 26 DVDDL, 27 RXD3, 28 RXD2, 29 VSS, 30 DVDDL, 31 RXD1, 32 RXD0, 33 RX_DV, 34 DVDDH, 35 RX_CLK, 36 MDC, 37 MDIO, 38 INT_N, 39 DVDDL, 40 DVDDH, 41 CLK125_NDO, 42 RESET_N, 43 LDO_O, 44 AVDDL_PLL, 45 XO, 46 XI, 47 AVDDH, 48 ISET, 49 P_GND
2 alternate drawings of the same symbol

## L_CD54-2R2M
designator L?, comment 2.2uH
绕线功率电感  2.2uH,±20%,4.5A(MAX),SMD5.8*5.2*4.5mm,JCY; 物料类型: 电感; SMT/DIP: SMT; 物料代码: *; 厂商: *
footprint CD54 (SMD,5.8*5.4*4.5mm)
pins: 1, 2
2 alternate drawings of the same symbol

## L_FHW1210HC1R0JGT
designator L?, comment 1uH
高频电感 1uH,±5%，直流内阻1.8R,额定电流320mA,1210,FH,FHW1210HC1R0JGT; 物料类型: 电感; SMT/DIP: SMT; 物料代码: *; 厂商: *
footprint L1210
pins: 1, 2
2 alternate drawings of the same symbol

## L_LQW18AN1939NGOOG
designator L?, comment 39nH
贴片电感 0603,39nH,±2%,直流内阻260mR,额定电流400mA,0603,muRata,LQW18AN1939NGOOG; 物料类型: 电感; SMT/DIP: SMT; 物料代码: *; 厂商: *
footprint L0603
pins: 1, 2
2 alternate drawings of the same symbol

## L_LRH
designator L?, comment 47nH
47nH,贴片电感 0402; 物料类型: 电感; SMT/DIP: SMT; 物料代码: *; 厂商: *
footprint L0402
pins: 1, 2
2 alternate drawings of the same symbol

## L_MCS0420-2R2MN2
designator L?, comment MCS0420-2R2MN2
MCS0420-2R2MN2,2.2uH/58mΩ,5A; 物料类型: 电感; SMT/DIP: SMT; 厂商: Frontier; 物料代码: *
footprint L_4.4X4X1.8mm (1.8mm)
pins: 1, 2
2 alternate drawings of the same symbol

## L_MHCI0603-4R7M-R8A
designator L?, comment 4.7uH
MHCI0603-4R7M-R8A，4.7uH, 5.5A,SMD7.3*6.6*3.0mm,CHILISIN; 物料类型: 电感; SMT/DIP: SMT; 厂商: CHILISIN; 物料代码: *
footprint L-MHCI0603-4R7M-R8A (SMD_6.6*6.4*3mm)
pins: 1, 2
2 alternate drawings of the same symbol

## L_MWSA0402-2R2MT
designator L?, comment 2.2uH
MWSA0402-2R2MT, 2.2uH,4.5A,SMD4.2*4.4*2mm,顺络; 物料类型: 电感; SMT/DIP: SMT; 厂商: 顺络; 物料代码: *
footprint IND-SMD_L4.4-W4.2 (电感4.4*4.2*2mm)
pins: 1, 2
2 alternate drawings of the same symbol

## L_MWSA0518-3R3MT
designator L?, comment 2.2uH
MWSA0518-3R3MT, 3.3uH,4.5A,SMD5.2*5.4*1.8mm,顺络; 物料类型: 电感; SMT/DIP: SMT; 厂商: 顺络; 物料代码: *
footprint IND-SMD_L5.4-W5.2 (电感5.4*5.4*1.8mm)
pins: 1, 2
2 alternate drawings of the same symbol

## L_SPH4018H3R3MT
designator L?, comment 3.3uH
SPH4018H3R3MT,绕线功率电感  3.3uH,±20%，直流内阻66mR,额定电流2A,SMD4*4*1.8mm,顺络,; 物料类型: 电感; SMT/DIP: SMT; 厂商: 顺络; 物料代码: *
footprint CD43 (4.5*4*3.2mm（长宽高）)
pins: 1, 2
2 alternate drawings of the same symbol

## L_SWPA3015S2R2MT
designator L?, comment 2.2uH
SWPA3015S2R2MT,绕线功率电感  2.2uH,±20%，直流内阻78mR,额定电流2A,SMD3*3*1.5mm,顺络,; 物料类型: 电感; SMT/DIP: SMT; 厂商: 顺络; 物料代码: *
footprint CD32 (3.5*3*2mm（长宽高）)
pins: 1, 2
2 alternate drawings of the same symbol

## L_SWPA6045S6R8MT
designator L?, comment 6.8uH
SWPA6045S6R8MT,绕线功率电感  6.8uH,±20%，直流内阻31mR,额定电流3A,SMD6*6*4.5mm,顺络,; 物料类型: 电感; SMT/DIP: SMT; 厂商: 顺络; 物料代码: *
footprint CD75 (6*6*4.5mm（长宽高）)
pins: 1, 2
2 alternate drawings of the same symbol

## LED_B
designator D?, comment 蓝色LED
蓝色发光LED,0603,RoHS, /; 物料类型: LED; SMT/DIP: SMT; 物料代码: *; 厂商: *
footprint LED-0603
pins: 1, 2
2 alternate drawings of the same symbol

## LED_G
designator D?, comment 绿色LED
绿色发光LED,0603,RoHS, /; 物料类型: 贴片LED; SMT/DIP: SMT; 物料代码: *; 厂商: *
footprint LED-0603
pins: 1, 2
2 alternate drawings of the same symbol

## LED_R
designator D?, comment 红色LED
红色发光LED,0603,RoHS, /; 物料类型: 贴片LED; SMT/DIP: SMT; 物料代码: *; 厂商: *
footprint LED-0603
pins: 1, 2
2 alternate drawings of the same symbol

## LED_Y
designator D?, comment 黄色LED
黄色发光LED,0603,RoHS, /; 物料类型: 贴片LED; SMT/DIP: SMT; 物料代码: *; 厂商: *
footprint LED-0603
pins: 1, 2
2 alternate drawings of the same symbol

## MAX232
designator U?
MAX232ESE,3.3V,SO16; 物料类型: IC; SMT/DIP: SMT; 厂商: *; 物料代码: *
footprint SO-16
pins: 1 C1+, 2 VS+, 3 C1-, 4 C2+, 5 C2-, 6 VS-, 7 TOUT2, 8 RIN2, 9 ROUT2, 10 TIN2, 11 TIN1, 12 ROUT1, 13 RIN1, 14 TOUT1, 15 GND, 16 VCC
2 alternate drawings of the same symbol

## MICRO_USB SP
designator J?, comment MICRO_USB SP180
MICRO_USB插座 卧式180°; 物料类型: microUSB插座; SMT/DIP: SMT; 物料代码: *; 厂商: *
footprint USB-AB-M2
pins: 1 VCC, 2 D-, 3 D+, 4 ID, 5 GND, 6 FIXED_HOLE

## MICRO_USB SP180
designator J?
MICRO_USB插座 180度立式; 物料类型: 连接器; SMT/DIP: SMT; 厂商: *
footprint MICROUSB-180
pins: 1 VCC, 2 D-, 3 D+, 4 ID, 5 GND, 6 FIXED_HOLE

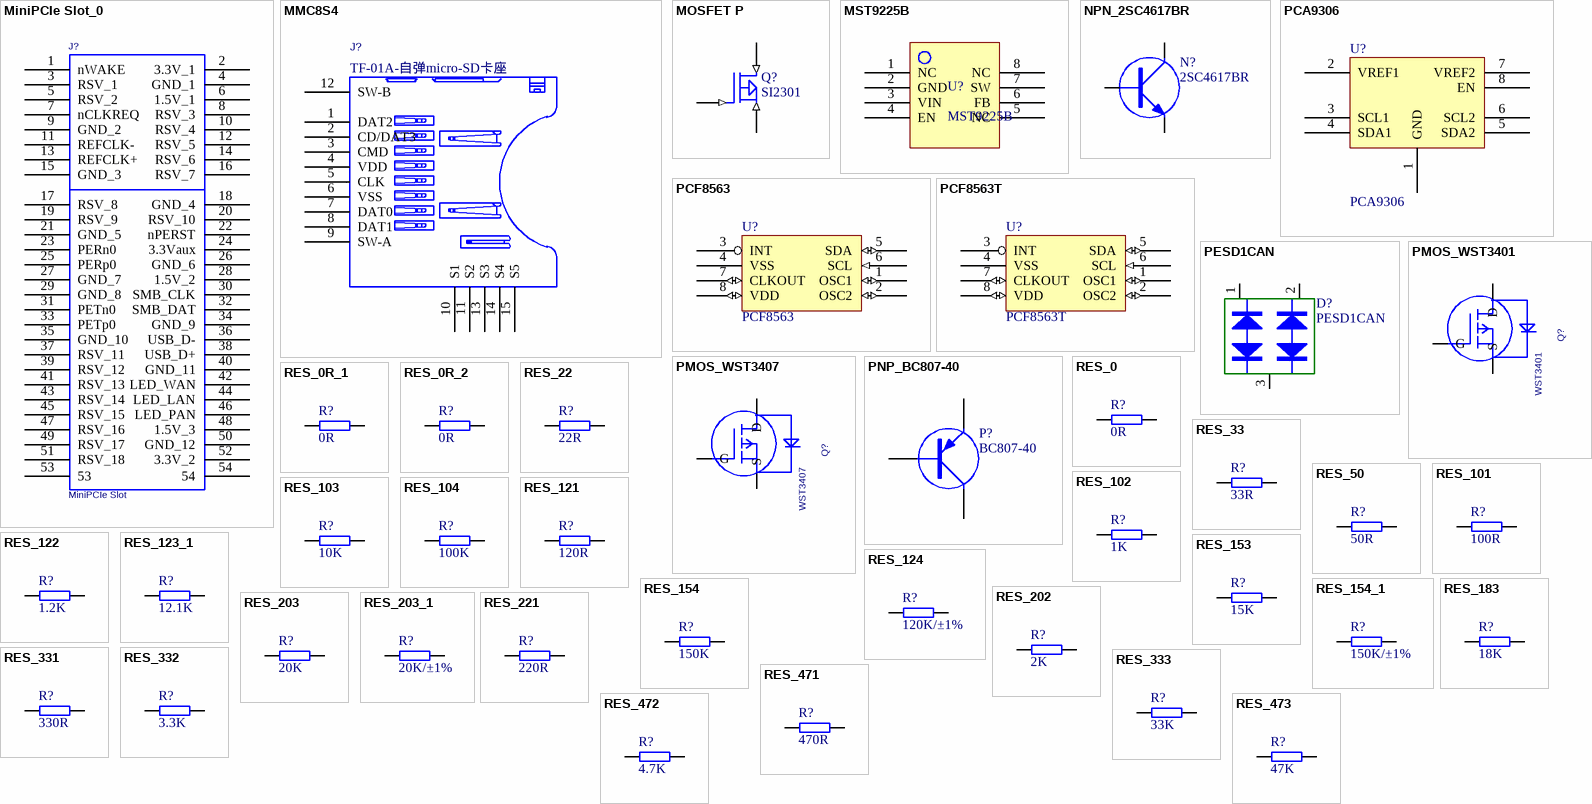
[diagram p4: symbols MiniPCIe Slot_0 to RES_473]

## MiniPCIe Slot_0
designator J?, comment MiniPCIe Slot
0717A0BA80C,MiniPCIe,H=8.0mm,SMT; 物料类型: 连接器; 封装: MiniPCIe; SMT/DIP: SMT; 厂商: *; 物料代码: *
footprint MEDC52-32F-PCIE-LOCK-L
pins: 1 nWAKE, 2 3.3V_1, 3 RSV_1, 4 GND_1, 5 RSV_2, 6 1.5V_1, 7 nCLKREQ, 8 RSV_3, 9 GND_2, 10 RSV_4, 11 REFCLK-, 12 RSV_5, 13 REFCLK+, 14 RSV_6, 15 GND_3, 16 RSV_7, 17 RSV_8, 18 GND_4, 19 RSV_9, 20 RSV_10, 21 GND_5, 22 nPERST, 23 PERn0, 24 3.3Vaux, 25 PERp0, 26 GND_6, 27 GND_7, 28 1.5V_2, 29 GND_8, 30 SMB_CLK, 31 PETn0, 32 SMB_DAT, 33 PETp0, 34 GND_9, 35 GND_10, 36 USB_D-, 37 RSV_11, 38 USB_D+, 39 RSV_12, 40 GND_11, 41 RSV_13, 42 LED_WAN, 43 RSV_14, 44 LED_LAN, 45 RSV_15, 46 LED_PAN, 47 RSV_16, 48 1.5V_3, 49 RSV_17, 50 GND_12, 51 RSV_18, 52 3.3V_2, 53, 54
2 alternate drawings of the same symbol

## MMC8S4
designator J?, comment TF-01A-自弹micro-SD卡座
物料类型: SD卡座; SMT/DIP: SMT; 物料代码: *; 厂商: *
footprint SD_MINI
pins: 1 DAT2, 2 CD/DAT3, 3 CMD, 4 VDD, 5 CLK, 6 VSS, 7 DAT0, 8 DAT1, 9 SW-A, 10 S1, 11 S2, 12 SW-B, 13 S3, 14 S4, 15 S5
2 alternate drawings of the same symbol

## MOSFET P
designator Q?, comment SI2301
SI2301,贴片P沟道MOS管 /; 物料类型: PMOS; SMT/DIP: SMT; 厂商: *
footprint SOT23-3L (SOT23, 3-Leads, Body 2.9x1.3mm, Pitch 0.95mm, Lead Span 2.3mm - Reverse Pinning, IPC High Density)
pins: 1 G (in), 2 D (in), 3 S (in)
2 alternate drawings of the same symbol

## MST9225B
designator U?
MST9225B,BOOST converter,input voltage:2.5_6V,2A output current,SOP8; 物料类型: IC; SMT/DIP: SMT; 物料代码: *; Parameter 2: *
footprint SOP-8
pins: 1 NC, 2 GND, 3 VIN, 4 EN, 5 NC, 6 FB, 7 SW, 8 NC

## NPN_2SC4617BR
designator N?, comment 2SC4617BR
NPN三极管，2SC4617BR,50V,150mA,SOT323; 物料类型: NPN三极管; SMT/DIP: SMT; 物料代码: *; Parameter 3: *
footprint SOT-523
pins: B, C, E
2 alternate drawings of the same symbol

## PCA9306
designator U?
电平转换芯片,PCA9306D,SO-8,NXP; 物料类型: IC; SMT/DIP: SMT; 物料代码: *; Parameter 3: *
footprint SOIC127P600X175-8N
pins: 1 GND, 2 VREF1, 3 SCL1, 4 SDA1, 5 SDA2, 6 SCL2, 7 VREF2, 8 EN
2 alternate drawings of the same symbol

## PCF8563
designator U?
PCF8563,实时时钟,SOP8; 物料类型: IC; SMT/DIP: SMT; 物料代码: *; Parameter 3: *
footprint SOP-8
pins: 1 OSC1 (io), 2 OSC2 (io), 3 INT, 4 VSS, 5 SDA (io), 6 SCL (in), 7 CLKOUT (io), 8 VDD (io)
2 alternate drawings of the same symbol

## PCF8563T
designator U?
PCF8563T,1.8-5.5V,SO8; 物料类型: IC; 封装: SO-8; SMT/DIP: SMT; 厂商: *; 物料代码: *
footprint SOIC127P600X175-8N
pins: 1 OSC1 (io), 2 OSC2 (io), 3 INT, 4 VSS, 5 SDA (io), 6 SCL (in), 7 CLKOUT (io), 8 VDD (io)
2 alternate drawings of the same symbol

## PESD1CAN
designator D?
PESD1CAN,23KV(contact)，10KV(HB),SOT-23; 物料类型: TVS管; SMT/DIP: SMT; 物料代码: *; 封装: SOT-23; 厂商: *
footprint SOT23-132D1
pins: 1, 2, 3
2 alternate drawings of the same symbol

## PMOS_WST3401
designator Q?, comment WST3401
WST3401,Vgs(th)/=-1.2V,Vds=-30V,Id=5.5A,SOT23-3L; 物料类型: PMOS管; SMT/DIP: SMT; 物料代码: *; Parameter 3: *
footprint SOT23-3L (SOT23, 3-Leads, Body 2.9x1.3mm, Pitch 0.95mm, Lead Span 2.3mm - Reverse Pinning, IPC High Density)
pins: 1 G, 2 S, 3 D

## PMOS_WST3407
designator Q?, comment WST3407
WST3407,Vgs(th)=-2.5V,PMOS,Vds=-30V,2.5V@250uA,Id=5.8A,SOT23-3L; 物料类型: PMOS管; SMT/DIP: SMT; 物料代码: *; Parameter 3: *
footprint SOT23-3L (SOT23, 3-Leads, Body 2.9x1.3mm, Pitch 0.95mm, Lead Span 2.3mm - Reverse Pinning, IPC High Density)
pins: 1 G, 2 S, 3 D

## PNP_BC807-40
designator P?, comment BC807-40
PNP三极管，BC807-40 /; 物料类型: PNP三极管; SMT/DIP: SMT; 物料代码: *; 厂商: *
footprint SOT-323
pins: 1 B, 2 E, 3 C
2 alternate drawings of the same symbol

## RES_0
designator R?, comment 0R
0R/±5%,1/16W,0402; 物料类型: 电阻; 封装: 0402; 贴片/直插: SMT; 物料代码: *; 厂商: *
footprint R0402
pins: 1, 2
2 alternate drawings of the same symbol

## RES_0R_1
designator R?, comment 0R
0R/±5%,1/10W,0603; 物料类型: 电阻; SMT/DIP: SMT; Value: 0R; 物料代码: *; 厂商: *
footprint R0603
pins: 1, 2
2 alternate drawings of the same symbol

## RES_0R_2
designator R?, comment 0R
0R/±5%,1/8W,0805; 物料类型: 电阻; SMT/DIP: SMT; Value: 0R; 物料代码: *; 厂商: *
footprint R0805
pins: 1, 2
2 alternate drawings of the same symbol

## RES_22
designator R?, comment 22R
22R/±5%,1/16W,0402; 物料类型: 电阻; 封装: 0402; SMT/DIP: SMT; 物料代码: *; 厂商: *
footprint R0402
pins: 1, 2
2 alternate drawings of the same symbol

## RES_33
designator R?, comment 33R
33R/±5%,1/16W,0402; 物料类型: 电阻; 封装: 0402; 贴片/直插: SMT; 物料代码: *; 厂商: *
footprint R0402
pins: 1, 2
2 alternate drawings of the same symbol

## RES_50
designator R?, comment 50R
50R/±5%,1/16W,0402; 物料类型: 电阻; 封装: 0402; 贴片/直插: SMT; 物料代码: *; 厂商: *
footprint R0402
pins: 1, 2
2 alternate drawings of the same symbol

## RES_101
designator R?, comment 100R
100R/±5%,1/16W,0402; 物料类型: 电阻; 封装: 0402; 贴片/直插: SMT; 物料代码: *; 厂商: *
footprint R0402
pins: 1, 2
2 alternate drawings of the same symbol

## RES_102
designator R?, comment 1K
1K/±5%,1/16W,0402; 物料类型: 电阻; 封装: 0402; 贴片/直插: SMT; 物料代码: *; 厂商: *
footprint R0402
pins: 1, 2
2 alternate drawings of the same symbol

## RES_103
designator R?, comment 10K
10K/±5%,1/16W,0402; 物料类型: 电阻; 封装: 0402; 贴片/直插: SMT; 物料代码: *; 厂商: *
footprint R0402
pins: 1, 2
2 alternate drawings of the same symbol

## RES_104
designator R?, comment 100K
100K/±5%,1/16W,0402; 物料类型: 电阻; 封装: 0402; 贴片/直插: SMT; 物料代码: *; 厂商: *
footprint R0402
pins: 1, 2
2 alternate drawings of the same symbol

## RES_121
designator R?, comment 120R
120R/±5%,1/16W,0402; 物料类型: 电阻; 封装: 0402; 贴片/直插: SMT; 物料代码: *; 厂商: *
footprint R0402
pins: 1, 2
2 alternate drawings of the same symbol

## RES_122
designator R?, comment 1.2K
1.2K/±5%,1/16W,0402; 物料类型: 电阻; 封装: 0402; 贴片/直插: SMT; 物料代码: *; 厂商: *
footprint R0402
pins: 1, 2
2 alternate drawings of the same symbol

## RES_123_1
designator R?, comment 12.1K
12.1K/±1%,1/16W,0402; 物料类型: 0402; 物料名称: 电阻; 贴片/直插: SMT; 物料代码: *; 厂商: *
footprint 0402_E
pins: 1, 2
2 alternate drawings of the same symbol

## RES_124
designator R?, comment 120K/±1%
120K/±1%,1/16W,0402; 物料类型: 电阻; 封装: 0402; 贴片/直插: SMT; 物料代码: *; 厂商: *
footprint R0402
pins: 1, 2
2 alternate drawings of the same symbol

## RES_153
designator R?, comment 15K
15K/±5%,1/16W,0402; 物料类型: 电阻; 封装: 0402; 贴片/直插: SMT; 物料代码: *; 厂商: *
footprint R0402
pins: 1, 2
2 alternate drawings of the same symbol

## RES_154
designator R?, comment 150K
150K/±5%,1/16W,0402; 物料类型: 电阻; 封装: 0402; 贴片/直插: SMT; 物料代码: *; 厂商: *
footprint R0402
pins: 1, 2
2 alternate drawings of the same symbol

## RES_154_1
designator R?, comment 150K/±1%
150K/±1%,1/16W,0402; 物料类型: 电阻; 封装: 0402; 贴片/直插: SMT; 物料代码: *; 厂商: *
footprint R0402
pins: 1, 2
2 alternate drawings of the same symbol

## RES_183
designator R?, comment 18K
18K/±5%,1/16W,0402; 物料类型: 电阻; 封装: 0402; 贴片/直插: SMT; 物料代码: *; 厂商: *
footprint R0402
pins: 1, 2
2 alternate drawings of the same symbol

## RES_202
designator R?, comment 2K
2K/±5%,1/16W,0402; 物料类型: 电阻; 封装: 0402; 贴片/直插: SMT; 物料代码: *; 厂商: *
footprint R0402
pins: 1, 2
2 alternate drawings of the same symbol

## RES_203
designator R?, comment 20K
20K/±5%,1/16W,0402; 物料类型: 电阻; 封装: 0402; 贴片/直插: SMT; 物料代码: *; 厂商: *
footprint R0402
pins: 1, 2
2 alternate drawings of the same symbol

## RES_203_1
designator R?, comment 20K/±1%
20K/±1%,1/16W,0402; 物料类型: 电阻; 封装: 0402; 贴片/直插: SMT; 物料代码: *; 厂商: *
footprint R0402
pins: 1, 2
2 alternate drawings of the same symbol

## RES_221
designator R?, comment 220R
220R/±5%,1/16W,0402; 物料类型: 电阻; 封装: 0402; 贴片/直插: SMT; 物料代码: *; 厂商: *
footprint R0402
pins: 1, 2
2 alternate drawings of the same symbol

## RES_331
designator R?, comment 330R
330R/±5%,1/16W,0402; 物料类型: 电阻; 封装: 0402; 贴片/直插: SMT; 物料代码: *; 厂商: *
footprint R0402
pins: 1, 2
2 alternate drawings of the same symbol

## RES_332
designator R?, comment 3.3K
3.3K/±5%,1/16W,0402; 物料类型: 电阻; 封装: 0402; 贴片/直插: SMT; 物料代码: *; 厂商: *
footprint R0402
pins: 1, 2
2 alternate drawings of the same symbol

## RES_333
designator R?, comment 33K
33K/±5%,1/16W,0402; 物料类型: 电阻; 封装: 0402; 贴片/直插: SMT; 物料代码: *; 厂商: *
footprint R0402
pins: 1, 2
2 alternate drawings of the same symbol

## RES_471
designator R?, comment 470R
470R/±5%,1/16W,0402; 物料类型: 电阻; 封装: 0402; 贴片/直插: SMT; 物料代码: *; 厂商: *
footprint R0402
footprint R0603
pins: 1, 2
2 alternate drawings of the same symbol

## RES_472
designator R?, comment 4.7K
4.7K/±5%,1/16W,0402; 物料类型: 电阻; 封装: 0402; 贴片/直插: SMT; 物料代码: *; 厂商: *
footprint R0402
pins: 1, 2
2 alternate drawings of the same symbol

## RES_473
designator R?, comment 47K
47K/±5%,1/16W,0402; 物料类型: 电阻; 封装: 0402; 贴片/直插: SMT; 物料代码: *; 厂商: *
footprint R0402
pins: 1, 2
2 alternate drawings of the same symbol

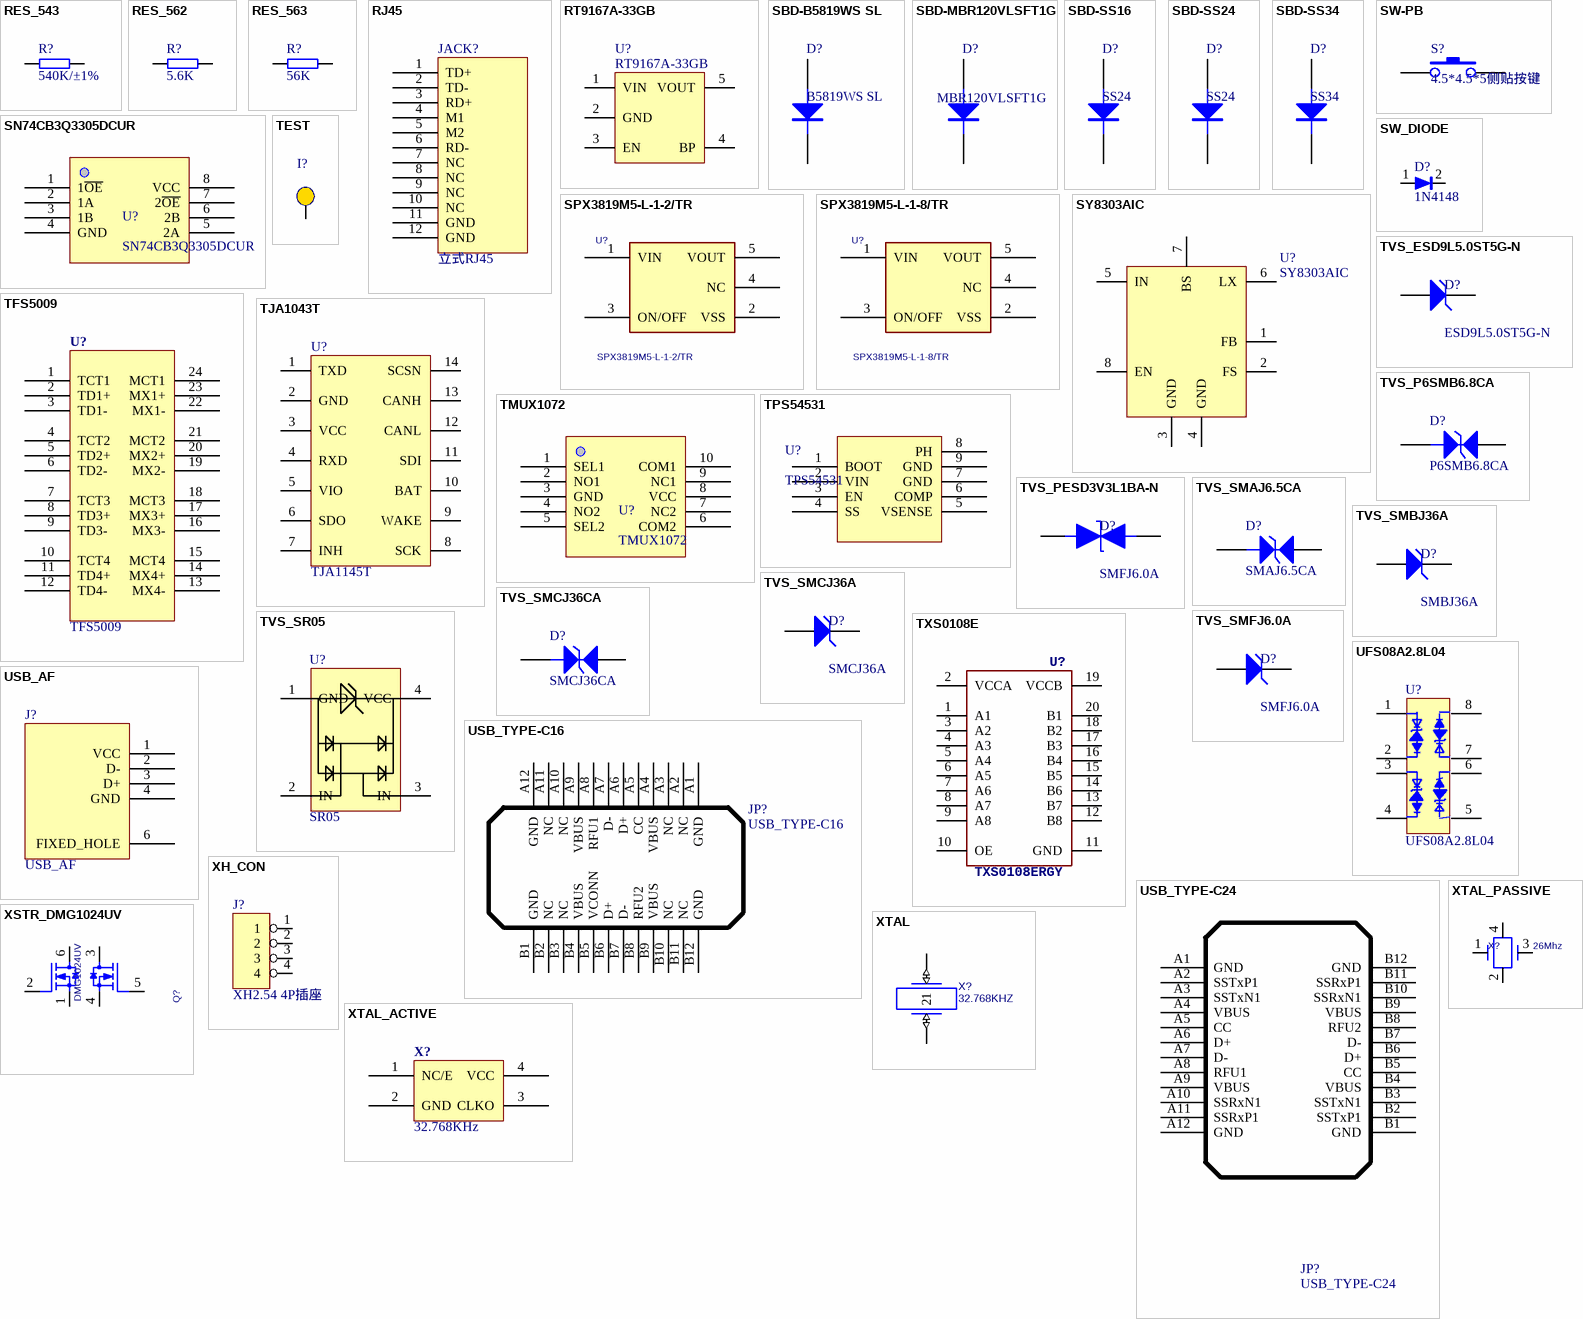
[diagram p5: symbols RES_543 to XTAL_PASSIVE]

## RES_543
designator R?, comment 540K/±1%
540K/±1%,1/16W,0402; 物料类型: 电阻; 封装: 0402; 贴片/直插: SMT; 物料代码: *; 厂商: *
footprint R0402
pins: 1, 2
2 alternate drawings of the same symbol

## RES_562
designator R?, comment 5.6K
5.6K/±5%,1/16W,0402; 物料类型: 电阻; 封装: 0402; 贴片/直插: SMT; 物料代码: *; 厂商: *
footprint R0402
pins: 1, 2
2 alternate drawings of the same symbol

## RES_563
designator R?, comment 56K
56K/±5%,1/16W,0402; 物料类型: 电阻; 封装: 0402; 贴片/直插: SMT; 物料代码: *; 厂商: *
footprint R0402
pins: 1, 2
2 alternate drawings of the same symbol

## RJ45
designator JACK?, comment 立式RJ45
立式RJ45 网口; SMT/DIP: SMT; 物料类型: 立式RJ45; 物料代码: *; 厂商: *
footprint RJ45_Vertical (立式RJ45)
pins: 1 TD+, 2 TD-, 3 RD+, 4 M1, 5 M2, 6 RD-, 7 NC, 8 NC, 9 NC, 10 NC, 11 GND, 12 GND
2 alternate drawings of the same symbol

## RT9167A-33GB
designator U?
RT9167A-33GB,2.7V~9V,350mV@350mA,SOT23*5; 物料类型: IC; SMT/DIP: SMT; 物料代码: *; 厂商: *
footprint SOT-23-5
pins: 1 VIN, 2 GND, 3 EN, 4 BP, 5 VOUT
2 alternate drawings of the same symbol

## SBD-B5819WS SL
designator D?, comment B5819WS SL
B5819WS,40V/1A,SOD-323; 物料类型: 肖特基二极管; 厂商: 安森美; SMT/DIP: SMT; 物料代码: *
footprint SOD-323
pins: 1 A, 2 K
2 alternate drawings of the same symbol

## SBD-MBR120VLSFT1G
designator D?, comment MBR120VLSFT1G
MBR120VLSFT1G,Io=1A,SOD123; 物料类型: 肖特基二极管; 厂商: 安森美; SMT/DIP: SMT
footprint SOD-123
pins: 1 A, 2 K
2 alternate drawings of the same symbol

## SBD-SS16
designator D?, comment SS24
SS16,Io=1A,反向耐压60V,正向压降700mV,SMA; 物料类型: 肖特基二极管; 厂商: 伯恩半导体; SMT/DIP: SMT; 物料代码: *
footprint SMA (4.5x2.6*2.2mm（长宽高，不包括引脚）)
pins: 1 A, 2 K
2 alternate drawings of the same symbol

## SBD-SS24
designator D?, comment SS24
SS24,Io=2A,反向耐压40V,正向压降500mV,SMA,伯恩半导体; 物料类型: 肖特基二极管; SMT/DIP: SMT; Value: *; 封装: SMA; 厂商: 伯恩半导体
footprint SMA (4.5x2.6*2.2mm（长宽高，不包括引脚）)
pins: 1 A, 2 K
2 alternate drawings of the same symbol

## SBD-SS34
designator D?, comment SS34
SS34,Io=3A,反向耐压40V,正向压降500mV,SMA,伯恩半导体; 物料类型: 肖特基二极管; SMT/DIP: SMT; 厂商: 伯恩半导体
footprint SMA (4.5x2.6*2.2mm（长宽高，不包括引脚）)
pins: 1 A, 2 K
2 alternate drawings of the same symbol

## SN74CB3Q3305DCUR
designator U?
SN74CB3Q3305DCUR ,2通道FET开关M,2.3V~3.6V; SMT/DIP: SMT; 物料类型: IC; 物料代码: *; 厂商: *
footprint VSSOP8
pins: 1 1~{OE}, 2 1A, 3 1B, 4 GND, 5 2A, 6 2B, 7 2~{OE}, 8 VCC

## SPX3819M5-L-1-2/TR
designator U?
SPX3819M5-1.2,1.2V,500mA LDO; 物料类型: IC; SMT/DIP: SMT; 物料代码: *; 厂商: *
footprint SC70-5
footprint SOT23-5
footprint SOT-23-5
pins: 1 VIN, 2 VSS, 3 ON/OFF, 4 NC, 5 VOUT
2 alternate drawings of the same symbol

## SPX3819M5-L-1-8/TR
designator U?
SPX3819M5-1.8,1.2V,500mA LDO; 物料类型: IC; SMT/DIP: SMT; 物料代码: *; 厂商: *
footprint SC70-5
footprint SOT23-5
footprint SOT-23-5
pins: 1 VIN, 2 VSS, 3 ON/OFF, 4 NC, 5 VOUT
2 alternate drawings of the same symbol

## SW-PB
designator S?, comment 4.5*4.5*5侧贴按键
物料类型: 侧贴按键; SMT/DIP: SMT; 物料代码: *; 厂商: *
footprint KEY-ATS01
pins: 1, 2
2 alternate drawings of the same symbol

## SW_DIODE
designator D?, comment 1N4148
开关二极管1N4148,SOD323; 物料类型: 开关二极管; SMT/DIP: SMT; 物料代码: *; 厂商: *
footprint SOD-323
pins: 1, 2
2 alternate drawings of the same symbol

## SY8303AIC
designator U?
SY8303AIC,4.5~40V输入,3A输出开关电源，silergy; 物料类型: IC; SMT/DIP: SMT; 厂商: silergy; 物料代码: *
footprint TSOT23-8
pins: 1 FB, 2 FS, 3 GND, 4 GND, 5 IN, 6 LX, 7 BS, 8 EN
2 alternate drawings of the same symbol

## TEST
designator I?  (value not drawn)  (no BOM)
footprint TEST0.8mm
footprint TEST1.0
pins: 1 TEST
2 alternate drawings of the same symbol

## TFS5009
designator U?
TFS5009,7.1×15.1×4.0mm,东莞天富,SOP-24; 物料类型: IC; SMT/DIP: SMT; 封装: SOP-24; 厂商: 东莞天富; 物料代码: *
footprint SOP100P1000X400-24N
pins: 1 TCT1, 2 TD1+, 3 TD1-, 4 TCT2, 5 TD2+, 6 TD2-, 7 TCT3, 8 TD3+, 9 TD3-, 10 TCT4, 11 TD4+, 12 TD4-, 13 MX4-, 14 MX4+, 15 MCT4, 16 MX3-, 17 MX3+, 18 MCT3, 19 MX2-, 20 MX2+, 21 MCT2, 22 MX1-, 23 MX1+, 24 MCT1
2 alternate drawings of the same symbol

## TJA1043T
designator U?, comment TJA1145T
TJA1145T,4.5V-28V,SO-14; 物料类型: IC; SMT/DIP: SMT; 物料代码: *; 封装: SO-14; 厂商: *
footprint SO-14
pins: 1 TXD, 2 GND, 3 VCC, 4 RXD, 5 VIO, 6 SDO, 7 INH, 8 SCK, 9 WAKE, 10 BAT, 11 SDI, 12 CANL, 13 CANH, 14 SCSN
2 alternate drawings of the same symbol

## TMUX1072
designator U?
TMUX1072,Double dual channel 2:1 module simulation multiplexing,2.3~5.5V,250uA,VSSOP10; 物料类型: IC; 厂商: TI; SMT/DIP: SMT; 物料代码: *
footprint VSSOP10
pins: 1 SEL1, 2 NO1, 3 GND, 4 NO2, 5 SEL2, 6 COM2, 7 NC2, 8 VCC, 9 NC1, 10 COM1

## TPS54531
designator U?
TPS54531DDAR,5-28V输入，5A输出开关电源,SOP8; 物料类型: IC; SMT/DIP: SMT; 厂商: TI; 物料代码: *
footprint TPS54531 (开关电源)
pins: 1 BOOT, 2 VIN, 3 EN, 4 SS, 5 VSENSE, 6 COMP, 7 GND, 8 PH, 9 GND

## TVS_ESD9L5.0ST5G-N
designator D?, comment ESD9L5.0ST5G-N
SMFJ6.0A,反向关断电压5V,峰值脉冲电流3A，嵌位电压13V,    DFN1006，伯恩半导体; 物料类型: TVS二极管; SMT/DIP: SMT; 物料代码: *; 厂商: *
footprint DFN1006 (0.6*1*0.5mm)
pins: 1, 2

## TVS_P6SMB6.8CA
designator D?, comment P6SMB6.8CA
P6SMB6.8CA,反向关断电压5.8V,峰值脉冲电58.1A,嵌位电压10.5V,    SMB，君耀电子 /; 物料类型: TVS二极管; SMT/DIP: SMT; 物料代码: *; 厂商: *
footprint SMB (4.7*3.9*2.2mm(长宽高，不包括引脚）)
pins: 1, 2
2 alternate drawings of the same symbol

## TVS_PESD3V3L1BA-N
designator D?, comment SMFJ6.0A
PESD3V3L1BA-N,反向关断电压3.3,峰值脉冲电流20A，SOD323，伯恩半导体; 物料类型: TVS二极管; SMT/DIP: SMT; 物料代码: *; 厂商: *
footprint SOD-323
pins: 1, 2

## TVS_SMAJ6.5CA
designator D?, comment SMAJ6.5CA
SMAJ6.5CA,反向关断电压6.5V,峰值脉冲电流35.7A,君耀电子 /; 物料类型: TVS二极管; SMT/DIP: SMT; 物料代码: *; 厂商: *
footprint SMA (4.5x2.6*2.2mm（长宽高，不包括引脚）)
pins: 1, 2
2 alternate drawings of the same symbol

## TVS_SMBJ36A
designator D?, comment SMBJ36A
SMBJ36A,反向关断电压36V,峰值脉冲电流10.4A，SMB，君耀电子; 物料类型: TVS二极管; SMT/DIP: SMT; 物料代码: *; 厂商: *
footprint SMB (4.7*3.9*2.2mm(长宽高，不包括引脚）)
pins: 1, 2

## TVS_SMCJ36A
designator D?, comment SMCJ36A
SMCJ36A,反向关断电压36V,峰值脉冲电流25.8A，SMC，君耀电子; 物料类型: TVS二极管; SMT/DIP: SMT; 物料代码: *; 厂商: *
footprint SMC (7.1x5.9*2.3mm（长宽高，不包括引脚）)
pins: 1, 2

## TVS_SMCJ36CA
designator D?, comment SMCJ36CA
SMCJ36CA,反向关断电压36V,峰值脉冲电流25.8A,SMC,伯恩半导体; 物料类型: TVS二极管; SMT/DIP: SMT; 物料代码: *; 厂商: *
footprint SMCJ18CA
pins: 1, 2
2 alternate drawings of the same symbol

## TVS_SMFJ6.0A
designator D?, comment SMFJ6.0A
SMFJ6.0A,反向关断电压6V,峰值脉冲电流19.4，SOD123，伯恩半导体; 物料类型: TVS二极管; SMT/DIP: SMT; 物料代码: *; 厂商: *
footprint SOD-123 (2.7x1.6X1.1mm（长宽高，不包括引脚）)
pins: 1, 2

## TVS_SR05
designator U?, comment SR05
SR05,反向关断电压5V,峰值脉冲电流3A，击穿电压（最小）6V,SOD123,伯恩半导体 /; 物料类型: "TVS二极管; SMT/DIP: SMT; 物料代码: *; 厂商: *
footprint SOT-143
pins: 1 GND, 2 IN, 3 IN, 4 VCC
2 alternate drawings of the same symbol

## TXS0108E
designator U?, comment TXS0108ERGY
TXS0108ERGY,8-bit bidirectional voltage level conversion,100mA,QFN20; 物料类型: IC; SMT/DIP: SMT; 物料代码: *; 厂商: *
footprint QFN20-RGY
pins: 1 A1, 2 VCCA, 3 A2, 4 A3, 5 A4, 6 A5, 7 A6, 8 A7, 9 A8, 10 OE, 11 GND, 12 B8, 13 B7, 14 B6, 15 B5, 16 B4, 17 B3, 18 B2, 19 VCCB, 20 B1

## UFS08A2.8L04
designator U?
UFS08A2.8L04,SO-8,君耀; 物料类型: IC; SMT/DIP: SMT; 封装: SO-8; 厂商: 君耀
footprint SOIC127P600X175-8N
pins: 1, 2, 3, 4, 5, 6, 7, 8
2 alternate drawings of the same symbol

## USB_AF
designator J?
USB2.0-AF90°,90度插板; 物料类型: USB插座; SMT/DIP: SMT; 厂商: *; 物料代码: *
footprint USB-DAN
pins: 1 VCC, 2 D-, 3 D+, 4 GND, 6 FIXED_HOLE

## USB_TYPE-C16
designator JP?
USB_TYPE-C-16PIN; SMT/DIP: SMT; 物料类型: USB_TYPE-C-16PIN; 物料代码: *; 厂商: *
footprint USB-type-c-16p
pins: A1 GND, A2 NC, A3 NC, A4 VBUS, A5 CC, A6 D+, A7 D-, A8 RFU1, A9 VBUS, A10 NC, A11 NC, A12 GND, B1 GND, B2 NC, B3 NC, B4 VBUS, B5 VCONN, B6 D+, B7 D-, B8 RFU2, B9 VBUS, B10 NC, B11 NC, B12 GND
2 alternate drawings of the same symbol

## USB_TYPE-C24
designator JP?
USB_TYPE-C-24PIN; SMT/DIP: SMT; 物料类型: USB_TYPE-C-24PIN; 物料代码: *; 厂商: *
footprint USB-U1CF24S-3.1
pins: A1 GND, A2 SSTxP1, A3 SSTxN1, A4 VBUS, A5 CC, A6 D+, A7 D-, A8 RFU1, A9 VBUS, A10 SSRxN1, A11 SSRxP1, A12 GND, B1 GND, B2 SSTxP1, B3 SSTxN1, B4 VBUS, B5 CC, B6 D+, B7 D-, B8 RFU2, B9 VBUS, B10 SSRxN1, B11 SSRxP1, B12 GND
2 alternate drawings of the same symbol

## XH_CON
designator J?, comment XH2.54 4P插座
XH2.54 4P，直插插座; 物料类型: XH-4A/2.54MM插座; SMT/DIP: DIP; 物料代码: *; 厂商: *
footprint XH2.54-4A
pins: 1, 2, 3, 4
2 alternate drawings of the same symbol

## XSTR_DMG1024UV
designator Q?, comment DMG1024UV
DMG1024UV,, 20V, 1.4A, 0.3ohm@4.5V,SOT-563-6; 物料类型: IC; SMT/DIP: SMT; 物料代码: *; 厂商: *
footprint SOT-563
pins: 1 S1, 2 G1, 3 D2, 4 S2, 5 G2, 6 D1

## XTAL
designator X?, comment 32.768KHZ
32.768KHZ,无源晶振，1206A; 物料类型: 无源晶振; SMT/DIP: SMT; 物料代码: *; 厂商: *
footprint 1206A
pins: 1 (io), 2 (io)
2 alternate drawings of the same symbol

## XTAL_ACTIVE
designator X?, comment 32.768KHz
32.768KHz,XTAL,3225,有源晶振; 物料类型: 有缘晶振; SMT/DIP: SMT; 物料代码: *; 厂商: *
footprint XTAL4-3.2X2.5
pins: 1 NC/E, 2 GND, 3 CLKO, 4 VCC
2 alternate drawings of the same symbol

## XTAL_PASSIVE
designator X?, comment 26Mhz
26Mhz,XTAL,3225,无源晶振; SMT/DIP: SMT; 物料类型: 无源晶振; 物料代码: *; 厂商: *
footprint XTAL4-3.2X2.5
footprint CRY-SMD4-3.2X2.5MM
pins: 1, 2, 3, 4